# Altium schematic symbol library YL-LPC4350-CORE-V1.0 _Library.SchLib: 156 symbols (part 1 of 10)
Pins are listed as number, name and electrical type; pins without a type are passive.

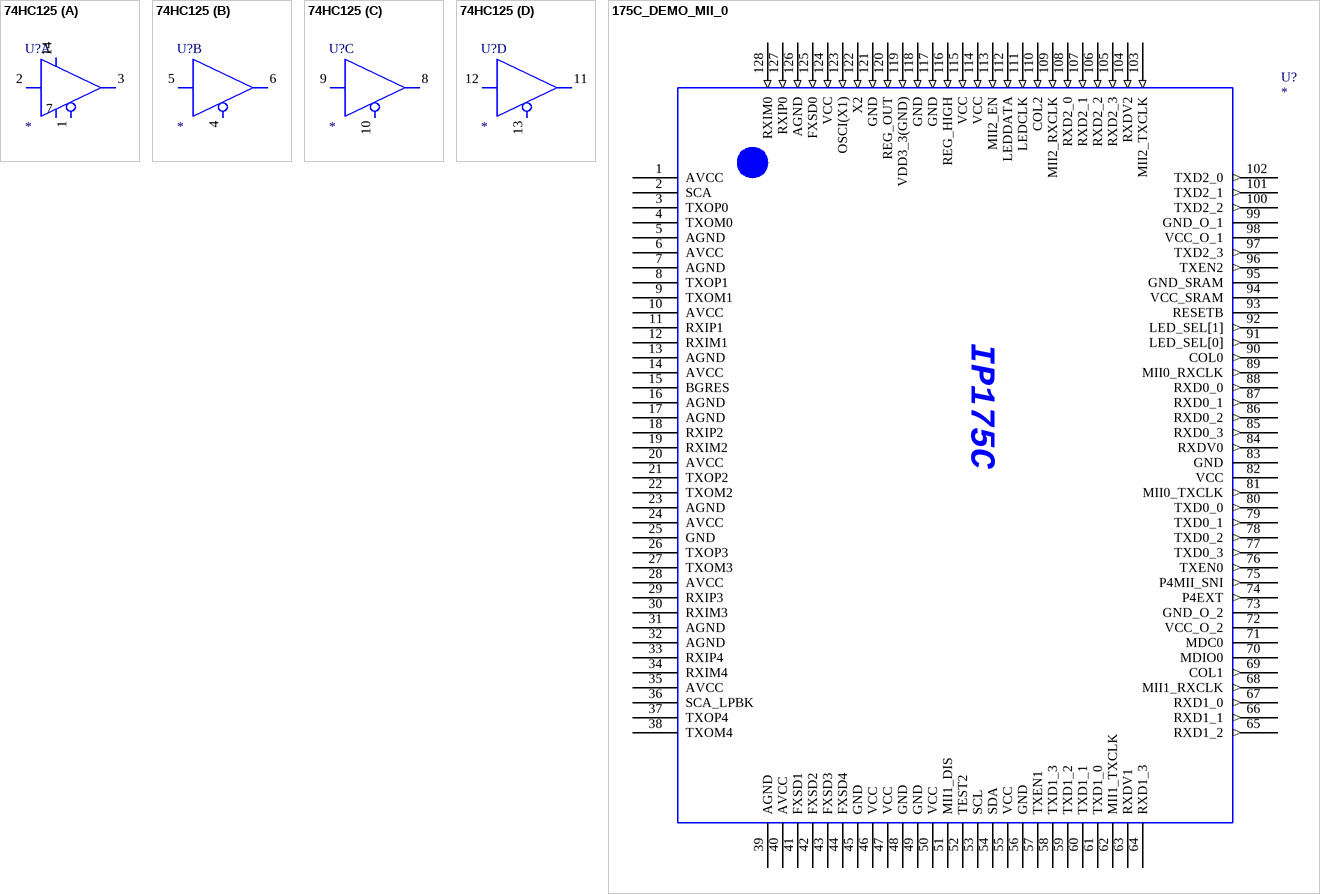
[diagram p0: symbols 74HC125 to 175C_DEMO_MII_0]

## 74HC125
designator U?
Altium-Right: 60; Altium-Bottom: 40; Altium-Right1: 60; Altium-Bottom1: 40; Altium-Right2: 60; Altium-Bottom2: 40; Altium-Right3: 60; Altium-Bottom3: 40
part A pins: 1 OE (in), 2 A (in), 3 Y (hiz), 7 GND, 14 VCC
part B pins: 4 OE (in), 5 A (in), 6 Y (hiz)
part C pins: 8 Y (hiz), 9 A (in), 10 OE (in)
part D pins: 11 Y (hiz), 12 A (in), 13 OE (in)

## 175C_DEMO_MII_0
designator U?
Altium-Right: 370; Altium-Bottom: 490
pins: 1 AVCC, 2 SCA, 3 TXOP0, 4 TXOM0, 5 AGND, 6 AVCC, 7 AGND, 8 TXOP1, 9 TXOM1, 10 AVCC, 11 RXIP1, 12 RXIM1, 13 AGND, 14 AVCC, 15 BGRES, 16 AGND, 17 AGND, 18 RXIP2, 19 RXIM2, 20 AVCC, 21 TXOP2, 22 TXOM2, 23 AGND, 24 AVCC, 25 GND, 26 TXOP3, 27 TXOM3, 28 AVCC, 29 RXIP3, 30 RXIM3, 31 AGND, 32 AGND, 33 RXIP4, 34 RXIM4, 35 AVCC, 36 SCA_LPBK, 37 TXOP4, 38 TXOM4, 39 AGND, 40 AVCC, 41 FXSD1, 42 FXSD2, 43 FXSD3, 44 FXSD4, 45 GND, 46 VCC, 47 VCC, 48 GND, 49 GND, 50 VCC, 51 MII1_DIS, 52 TEST2, 53 SCL, 54 SDA, 55 VCC, 56 GND, 57 TXEN1, 58 TXD1_3, 59 TXD1_2, 60 TXD1_1, 61 TXD1_0, 62 MII1_TXCLK, 63 RXDV1, 64 RXD1_3, 65 RXD1_2 (out), 66 RXD1_1 (out), 67 RXD1_0 (out), 68 MII1_RXCLK (out), 69 COL1 (out), 70 MDIO0, 71 MDC0, 72 VCC_O_2 (power), 73 GND_O_2, 74 P4EXT (out), 75 P4MII_SNI (out), 76 TXEN0 (out), 77 TXD0_3 (out), 78 TXD0_2 (out), 79 TXD0_1 (out), 80 TXD0_0 (out), 81 MII0_TXCLK (out), 82 VCC, 83 GND (power), 84 RXDV0 (out), 85 RXD0_3 (out), 86 RXD0_2 (out), 87 RXD0_1 (out), 88 RXD0_0 (out), 89 MII0_RXCLK (out), 90 COL0 (out), 91 LED_SEL[0] (out), 92 LED_SEL[1] (out), 93 RESETB, 94 VCC_SRAM, 95 GND_SRAM, 96 TXEN2 (out), 97 TXD2_3 (out), 98 VCC_O_1 (power), 99 GND_O_1, 100 TXD2_2 (out), 101 TXD2_1 (out), 102 TXD2_0 (out), 103 MII2_TXCLK (in), 104 RXDV2 (in), 105 RXD2_3 (in), 106 RXD2_2 (in), 107 RXD2_1 (in), 108 RXD2_0 (in), 109 MII2_RXCLK (in), 110 COL2 (in), 111 LEDCLK (in), 112 LEDDATA (in), 113 MII2_EN (in), 114 VCC (in), 115 VCC (in), 116 REG_HIGH (in), 117 GND (in), 118 GND (in), 119 VDD3_3(GND) (in), 120 REG_OUT (in), 121 GND (in), 122 X2 (in), 123 OSCI(X1) (in), 124 VCC (in), 125 FXSD0 (in), 126 AGND (in), 127 RXIP0 (in), 128 RXIM0 (in)
text: IP175C

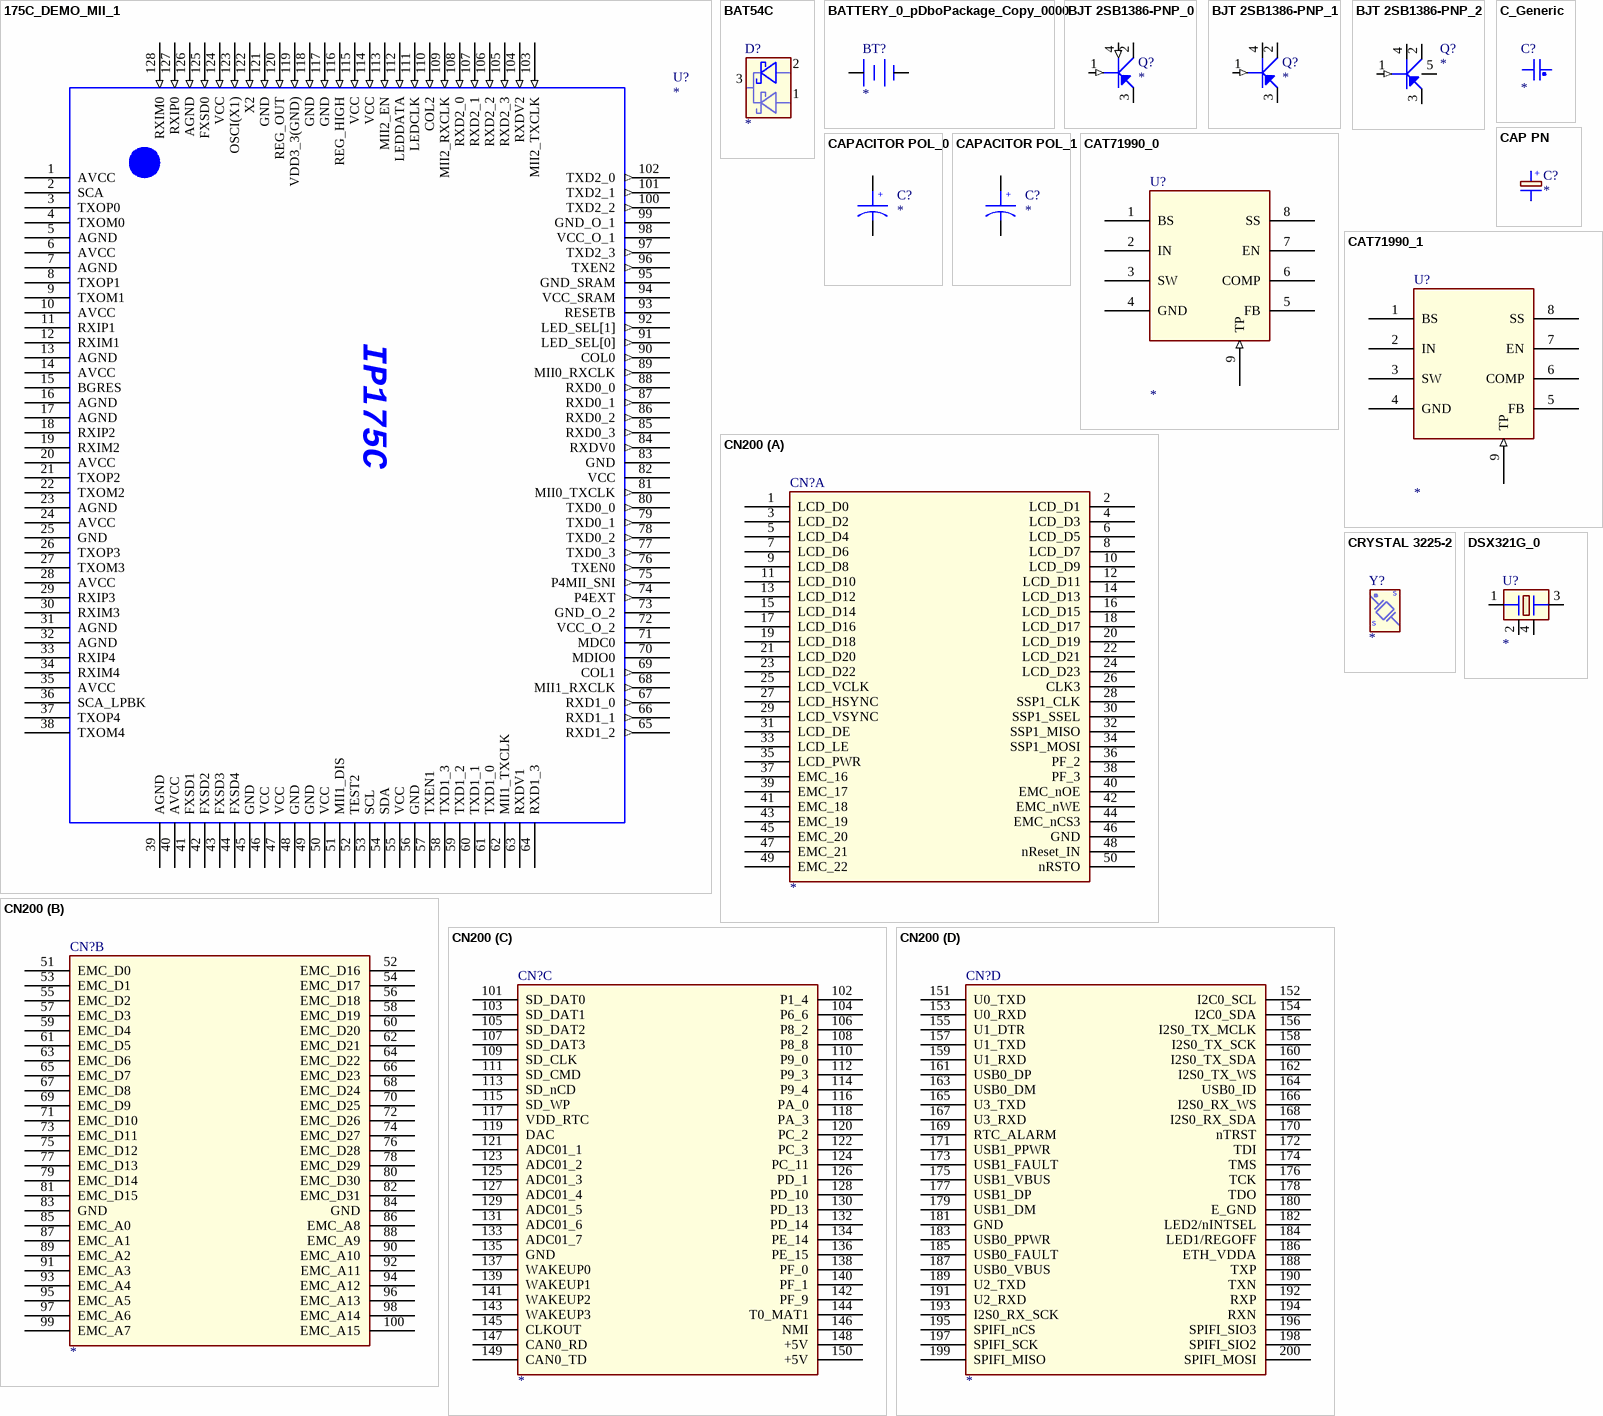
[diagram p1: symbols 175C_DEMO_MII_1 to DSX321G_0]

## 175C_DEMO_MII_1
designator U?
Altium-Right: 370; Altium-Bottom: 490
pins: 1 AVCC, 2 SCA, 3 TXOP0, 4 TXOM0, 5 AGND, 6 AVCC, 7 AGND, 8 TXOP1, 9 TXOM1, 10 AVCC, 11 RXIP1, 12 RXIM1, 13 AGND, 14 AVCC, 15 BGRES, 16 AGND, 17 AGND, 18 RXIP2, 19 RXIM2, 20 AVCC, 21 TXOP2, 22 TXOM2, 23 AGND, 24 AVCC, 25 GND, 26 TXOP3, 27 TXOM3, 28 AVCC, 29 RXIP3, 30 RXIM3, 31 AGND, 32 AGND, 33 RXIP4, 34 RXIM4, 35 AVCC, 36 SCA_LPBK, 37 TXOP4, 38 TXOM4, 39 AGND, 40 AVCC, 41 FXSD1, 42 FXSD2, 43 FXSD3, 44 FXSD4, 45 GND, 46 VCC, 47 VCC, 48 GND, 49 GND, 50 VCC, 51 MII1_DIS, 52 TEST2, 53 SCL, 54 SDA, 55 VCC, 56 GND, 57 TXEN1, 58 TXD1_3, 59 TXD1_2, 60 TXD1_1, 61 TXD1_0, 62 MII1_TXCLK, 63 RXDV1, 64 RXD1_3, 65 RXD1_2 (out), 66 RXD1_1 (out), 67 RXD1_0 (out), 68 MII1_RXCLK (out), 69 COL1 (out), 70 MDIO0, 71 MDC0, 72 VCC_O_2 (power), 73 GND_O_2, 74 P4EXT (out), 75 P4MII_SNI (out), 76 TXEN0 (out), 77 TXD0_3 (out), 78 TXD0_2 (out), 79 TXD0_1 (out), 80 TXD0_0 (out), 81 MII0_TXCLK (out), 82 VCC, 83 GND (power), 84 RXDV0 (out), 85 RXD0_3 (out), 86 RXD0_2 (out), 87 RXD0_1 (out), 88 RXD0_0 (out), 89 MII0_RXCLK (out), 90 COL0 (out), 91 LED_SEL[0] (out), 92 LED_SEL[1] (out), 93 RESETB, 94 VCC_SRAM, 95 GND_SRAM, 96 TXEN2 (out), 97 TXD2_3 (out), 98 VCC_O_1 (power), 99 GND_O_1, 100 TXD2_2 (out), 101 TXD2_1 (out), 102 TXD2_0 (out), 103 MII2_TXCLK (in), 104 RXDV2 (in), 105 RXD2_3 (in), 106 RXD2_2 (in), 107 RXD2_1 (in), 108 RXD2_0 (in), 109 MII2_RXCLK (in), 110 COL2 (in), 111 LEDCLK (in), 112 LEDDATA (in), 113 MII2_EN (in), 114 VCC (in), 115 VCC (in), 116 REG_HIGH (in), 117 GND (in), 118 GND (in), 119 VDD3_3(GND) (in), 120 REG_OUT (in), 121 GND (in), 122 X2 (in), 123 OSCI(X1) (in), 124 VCC (in), 125 FXSD0 (in), 126 AGND (in), 127 RXIP0 (in), 128 RXIM0 (in)
text: IP175C

## BAT54C
designator D?
Altium-Right: 30; Altium-Bottom: 40
pins: 1 A, 2 K, 3 COM

## BATTERY_0_pDboPackage_Copy_0000
designator BT?
Altium-Right: 20; Altium-Bottom: 20
pins: 1 +, 2 -

## BJT 2SB1386-PNP_0
designator Q?
Altium-Right: 20; Altium-Bottom: 20
footprint SOT-89
pins: 1 BASE (in), 2 COLLECTOR (io), 3 EMITTER (io), 4 COLLECTOR (in)

## BJT 2SB1386-PNP_1
designator Q?
Altium-Right: 20; Altium-Bottom: 20
footprint SOT-89
pins: 1 BASE (in), 2 COLLECTOR (io), 3 EMITTER (io), 4 COLLECTOR (io)

## BJT 2SB1386-PNP_2
designator Q?
Altium-Right: 20; Altium-Bottom: 20
footprint SOT-89
pins: 1 BASE (in), 2 COLLECTOR (io), 3 EMITTER (io), 4 COLLECTOR (io), 5 COLLECTOR (io)

## C_Generic
designator C?
Altium-Right: 20; Altium-Bottom: 20
footprint CAP0805
pins: 1, 2

## CAP PN
designator C?
SDTSourceLibName: C:\WINDOWS\TEMP\SNDS.LIB; Altium-Right: 20; Altium-Bottom: 20
pins: 1, 2
text: +

## CAPACITOR POL_0
designator C?
Altium-Right: 20; Altium-Bottom: 20
footprint CAP-1106-DIP
pins: 1, 2
text: +

## CAPACITOR POL_1
designator C?
Altium-Right: 20; Altium-Bottom: 20
footprint CAP-1106-DIP
pins: 1, 2
text: +

## CAT71990_0
designator U?
Altium-Right: 80; Altium-Bottom: 100
footprint SOP8
pins: 1 BS, 2 IN, 3 SW, 4 GND, 5 FB, 6 COMP, 7 EN, 8 SS, 9 TP (in)

## CAT71990_1
designator U?
Altium-Right: 80; Altium-Bottom: 100
footprint SOP8
pins: 1 BS, 2 IN, 3 SW, 4 GND, 5 FB, 6 COMP, 7 EN, 8 SS, 9 TP (in)

## CN200
designator CN?
Altium-Right: 200; Altium-Bottom: 260; Altium-Right1: 200; Altium-Bottom1: 260; Altium-Right2: 200; Altium-Bottom2: 260; Altium-Right3: 200; Altium-Bottom3: 260
part A pins: 1 LCD_D0, 2 LCD_D1, 3 LCD_D2, 4 LCD_D3, 5 LCD_D4, 6 LCD_D5, 7 LCD_D6, 8 LCD_D7, 9 LCD_D8, 10 LCD_D9, 11 LCD_D10, 12 LCD_D11, 13 LCD_D12, 14 LCD_D13, 15 LCD_D14, 16 LCD_D15, 17 LCD_D16, 18 LCD_D17, 19 LCD_D18, 20 LCD_D19, 21 LCD_D20, 22 LCD_D21, 23 LCD_D22, 24 LCD_D23, 25 LCD_VCLK, 26 CLK3, 27 LCD_HSYNC, 28 SSP1_CLK, 29 LCD_VSYNC, 30 SSP1_SSEL, 31 LCD_DE, 32 SSP1_MISO, 33 LCD_LE, 34 SSP1_MOSI, 35 LCD_PWR, 36 PF_2, 37 EMC_16, 38 PF_3, 39 EMC_17, 40 EMC_nOE, 41 EMC_18, 42 EMC_nWE, 43 EMC_19, 44 EMC_nCS3, 45 EMC_20, 46 GND, 47 EMC_21, 48 nReset_IN, 49 EMC_22, 50 nRSTO
part B pins: 51 EMC_D0, 52 EMC_D16, 53 EMC_D1, 54 EMC_D17, 55 EMC_D2, 56 EMC_D18, 57 EMC_D3, 58 EMC_D19, 59 EMC_D4, 60 EMC_D20, 61 EMC_D5, 62 EMC_D21, 63 EMC_D6, 64 EMC_D22, 65 EMC_D7, 66 EMC_D23, 67 EMC_D8, 68 EMC_D24, 69 EMC_D9, 70 EMC_D25, 71 EMC_D10, 72 EMC_D26, 73 EMC_D11, 74 EMC_D27, 75 EMC_D12, 76 EMC_D28, 77 EMC_D13, 78 EMC_D29, 79 EMC_D14, 80 EMC_D30, 81 EMC_D15, 82 EMC_D31, 83 GND, 84 GND, 85 EMC_A0, 86 EMC_A8, 87 EMC_A1, 88 EMC_A9, 89 EMC_A2, 90 EMC_A10, 91 EMC_A3, 92 EMC_A11, 93 EMC_A4, 94 EMC_A12, 95 EMC_A5, 96 EMC_A13, 97 EMC_A6, 98 EMC_A14, 99 EMC_A7, 100 EMC_A15
part C pins: 101 SD_DAT0, 102 P1_4, 103 SD_DAT1, 104 P6_6, 105 SD_DAT2, 106 P8_2, 107 SD_DAT3, 108 P8_8, 109 SD_CLK, 110 P9_0, 111 SD_CMD, 112 P9_3, 113 SD_nCD, 114 P9_4, 115 SD_WP, 116 PA_0, 117 VDD_RTC, 118 PA_3, 119 DAC, 120 PC_2, 121 ADC01_1, 122 PC_3, 123 ADC01_2, 124 PC_11, 125 ADC01_3, 126 PD_1, 127 ADC01_4, 128 PD_10, 129 ADC01_5, 130 PD_13, 131 ADC01_6, 132 PD_14, 133 ADC01_7, 134 PE_14, 135 GND, 136 PE_15, 137 WAKEUP0, 138 PF_0, 139 WAKEUP1, 140 PF_1, 141 WAKEUP2, 142 PF_9, 143 WAKEUP3, 144 T0_MAT1, 145 CLKOUT, 146 NMI, 147 CAN0_RD, 148 +5V, 149 CAN0_TD, 150 +5V
part D pins: 151 U0_TXD, 152 I2C0_SCL, 153 U0_RXD, 154 I2C0_SDA, 155 U1_DTR, 156 I2S0_TX_MCLK, 157 U1_TXD, 158 I2S0_TX_SCK, 159 U1_RXD, 160 I2S0_TX_SDA, 161 USB0_DP, 162 I2S0_TX_WS, 163 USB0_DM, 164 USB0_ID, 165 U3_TXD, 166 I2S0_RX_WS, 167 U3_RXD, 168 I2S0_RX_SDA, 169 RTC_ALARM, 170 nTRST, 171 USB1_PPWR, 172 TDI, 173 USB1_FAULT, 174 TMS, 175 USB1_VBUS, 176 TCK, 177 USB1_DP, 178 TDO, 179 USB1_DM, 180 E_GND, 181 GND, 182 LED2/nINTSEL, 183 USB0_PPWR, 184 LED1/REGOFF, 185 USB0_FAULT, 186 ETH_VDDA, 187 USB0_VBUS, 188 TXP, 189 U2_TXD, 190 TXN, 191 U2_RXD, 192 RXP, 193 I2S0_RX_SCK, 194 RXN, 195 SPIFI_nCS, 196 SPIFI_SIO3, 197 SPIFI_SCK, 198 SPIFI_SIO2, 199 SPIFI_MISO, 200 SPIFI_MOSI

## CRYSTAL 3225-2
designator Y?
Altium-Right: 20; Altium-Bottom: 40
footprint Y3225
pins: 1, 2, 3, 4
text: S

## DSX321G_0
designator U?
Altium-Right: 30; Altium-Bottom: 20
pins: 1, 2 NC, 3, 4 NC

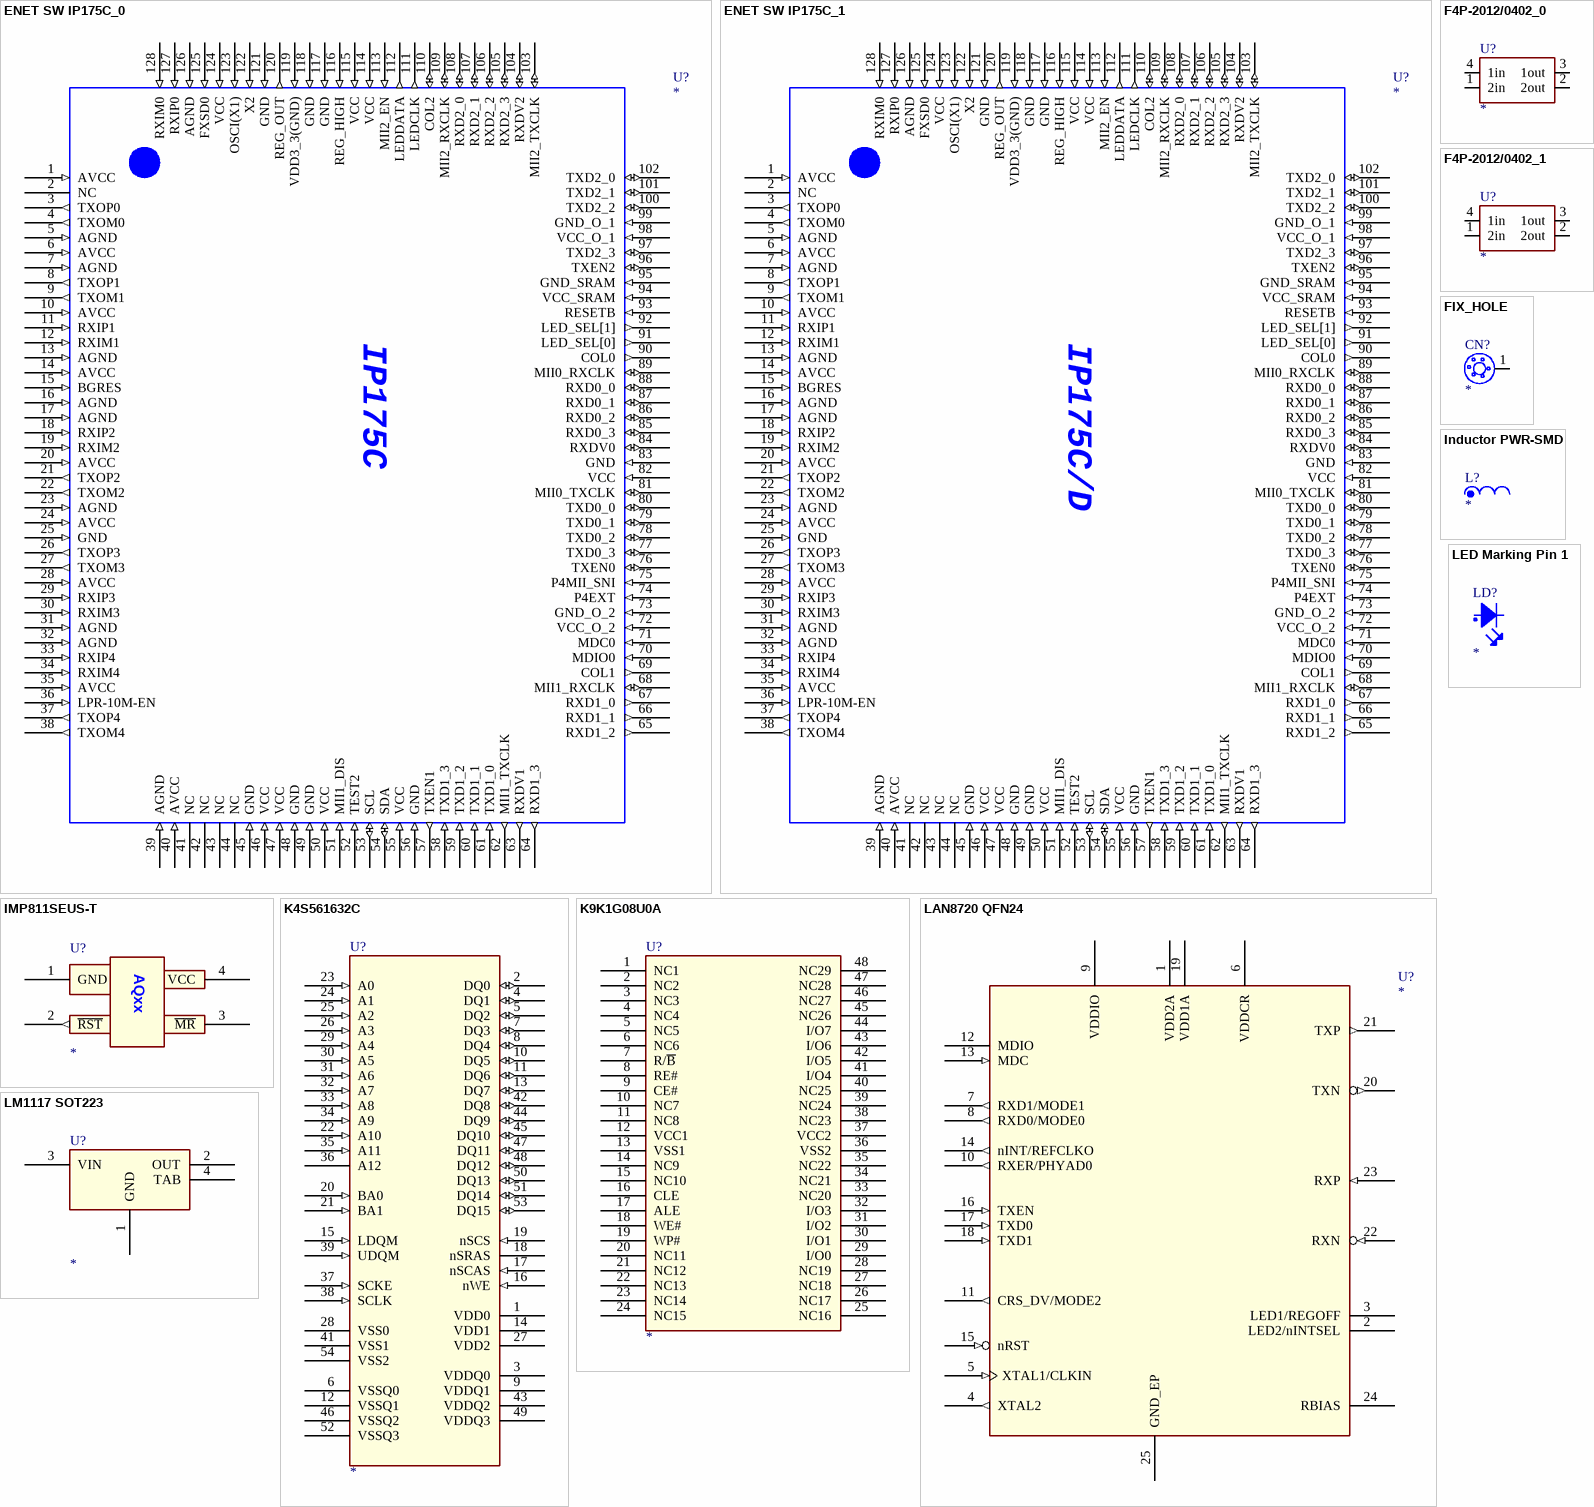
[diagram p2: symbols ENET SW IP175C_0 to LM1117 SOT223]

## ENET SW IP175C_0
designator U?
Altium-Right: 370; Altium-Bottom: 490
footprint P128QFP
pins: 1 AVCC (in), 2 NC, 3 TXOP0 (out), 4 TXOM0 (out), 5 AGND (in), 6 AVCC (in), 7 AGND (in), 8 TXOP1 (out), 9 TXOM1 (out), 10 AVCC (in), 11 RXIP1 (in), 12 RXIM1 (in), 13 AGND (in), 14 AVCC (in), 15 BGRES (in), 16 AGND (in), 17 AGND (in), 18 RXIP2 (in), 19 RXIM2 (in), 20 AVCC (in), 21 TXOP2 (out), 22 TXOM2 (out), 23 AGND (in), 24 AVCC (in), 25 GND (in), 26 TXOP3 (out), 27 TXOM3 (out), 28 AVCC (in), 29 RXIP3 (in), 30 RXIM3 (in), 31 AGND (in), 32 AGND (in), 33 RXIP4 (in), 34 RXIM4 (in), 35 AVCC (in), 36 LPR-10M-EN (in), 37 TXOP4 (out), 38 TXOM4 (out), 39 AGND (in), 40 AVCC (in), 41 NC, 42 NC, 43 NC, 44 NC, 45 GND (in), 46 VCC (in), 47 VCC (in), 48 GND (in), 49 GND (in), 50 VCC (in), 51 MII1_DIS (in), 52 TEST2 (in), 53 SCL (io), 54 SDA (io), 55 VCC (in), 56 GND (in), 57 TXEN1 (out), 58 TXD1_3 (in), 59 TXD1_2 (in), 60 TXD1_1 (in), 61 TXD1_0 (in), 62 MII1_TXCLK (out), 63 RXDV1 (out), 64 RXD1_3 (out), 65 RXD1_2 (out), 66 RXD1_1 (out), 67 RXD1_0 (out), 68 MII1_RXCLK (io), 69 COL1 (out), 70 MDIO0 (in), 71 MDC0 (in), 72 VCC_O_2 (in), 73 GND_O_2 (in), 74 P4EXT (in), 75 P4MII_SNI (in), 76 TXEN0 (io), 77 TXD0_3 (io), 78 TXD0_2 (io), 79 TXD0_1 (io), 80 TXD0_0 (io), 81 MII0_TXCLK (io), 82 VCC (in), 83 GND (in), 84 RXDV0 (io), 85 RXD0_3 (io), 86 RXD0_2 (io), 87 RXD0_1 (io), 88 RXD0_0 (io), 89 MII0_RXCLK (io), 90 COL0 (out), 91 LED_SEL[0] (out), 92 LED_SEL[1] (out), 93 RESETB (in), 94 VCC_SRAM (in), 95 GND_SRAM (in), 96 TXEN2 (io), 97 TXD2_3 (io), 98 VCC_O_1 (in), 99 GND_O_1 (in), 100 TXD2_2 (io), 101 TXD2_1 (io), 102 TXD2_0 (io), 103 MII2_TXCLK (io), 104 RXDV2 (io), 105 RXD2_3 (io), 106 RXD2_2 (io), 107 RXD2_1 (io), 108 RXD2_0 (io), 109 MII2_RXCLK (io), 110 COL2 (io), 111 LEDCLK (out), 112 LEDDATA (out), 113 MII2_EN (in), 114 VCC (in), 115 VCC (in), 116 REG_HIGH (in), 117 GND (in), 118 GND (in), 119 VDD3_3(GND) (in), 120 REG_OUT (out), 121 GND (in), 122 X2 (in), 123 OSCI(X1) (in), 124 VCC (in), 125 FXSD0 (in), 126 AGND (in), 127 RXIP0 (in), 128 RXIM0 (in)
text: IP175C

## ENET SW IP175C_1
designator U?
Altium-Right: 370; Altium-Bottom: 490
footprint P128QFP
pins: 1 AVCC (in), 2 NC, 3 TXOP0 (out), 4 TXOM0 (out), 5 AGND (in), 6 AVCC (in), 7 AGND (in), 8 TXOP1 (out), 9 TXOM1 (out), 10 AVCC (in), 11 RXIP1 (in), 12 RXIM1 (in), 13 AGND (in), 14 AVCC (in), 15 BGRES (in), 16 AGND (in), 17 AGND (in), 18 RXIP2 (in), 19 RXIM2 (in), 20 AVCC (in), 21 TXOP2 (out), 22 TXOM2 (out), 23 AGND (in), 24 AVCC (in), 25 GND (in), 26 TXOP3 (out), 27 TXOM3 (out), 28 AVCC (in), 29 RXIP3 (in), 30 RXIM3 (in), 31 AGND (in), 32 AGND (in), 33 RXIP4 (in), 34 RXIM4 (in), 35 AVCC (in), 36 LPR-10M-EN (in), 37 TXOP4 (out), 38 TXOM4 (out), 39 AGND (in), 40 AVCC (in), 41 NC, 42 NC, 43 NC, 44 NC, 45 GND (in), 46 VCC (in), 47 VCC (in), 48 GND (in), 49 GND (in), 50 VCC (in), 51 MII1_DIS (in), 52 TEST2 (in), 53 SCL (io), 54 SDA (io), 55 VCC (in), 56 GND (in), 57 TXEN1 (out), 58 TXD1_3 (in), 59 TXD1_2 (in), 60 TXD1_1 (in), 61 TXD1_0 (in), 62 MII1_TXCLK (out), 63 RXDV1 (out), 64 RXD1_3 (out), 65 RXD1_2 (out), 66 RXD1_1 (out), 67 RXD1_0 (out), 68 MII1_RXCLK (io), 69 COL1 (out), 70 MDIO0 (in), 71 MDC0 (in), 72 VCC_O_2 (in), 73 GND_O_2 (in), 74 P4EXT (in), 75 P4MII_SNI (in), 76 TXEN0 (io), 77 TXD0_3 (io), 78 TXD0_2 (io), 79 TXD0_1 (io), 80 TXD0_0 (io), 81 MII0_TXCLK (io), 82 VCC (in), 83 GND (in), 84 RXDV0 (io), 85 RXD0_3 (io), 86 RXD0_2 (io), 87 RXD0_1 (io), 88 RXD0_0 (io), 89 MII0_RXCLK (io), 90 COL0 (out), 91 LED_SEL[0] (out), 92 LED_SEL[1] (out), 93 RESETB (in), 94 VCC_SRAM (in), 95 GND_SRAM (in), 96 TXEN2 (io), 97 TXD2_3 (io), 98 VCC_O_1 (in), 99 GND_O_1 (in), 100 TXD2_2 (io), 101 TXD2_1 (io), 102 TXD2_0 (io), 103 MII2_TXCLK (io), 104 RXDV2 (io), 105 RXD2_3 (io), 106 RXD2_2 (io), 107 RXD2_1 (io), 108 RXD2_0 (io), 109 MII2_RXCLK (io), 110 COL2 (io), 111 LEDCLK (out), 112 LEDDATA (out), 113 MII2_EN (in), 114 VCC (in), 115 VCC (in), 116 REG_HIGH (in), 117 GND (in), 118 GND (in), 119 VDD3_3(GND) (in), 120 REG_OUT (out), 121 GND (in), 122 X2 (in), 123 OSCI(X1) (in), 124 VCC (in), 125 FXSD0 (in), 126 AGND (in), 127 RXIP0 (in), 128 RXIM0 (in)
text: IP175C/D

## F4P-2012/0402_0
designator U?
Altium-Right: 50; Altium-Bottom: 30
footprint F4P-2012/0402
pins: 1 2in (io), 2 2out (io), 3 1out (io), 4 1in (io)

## F4P-2012/0402_1
designator U?
Altium-Right: 50; Altium-Bottom: 30
footprint F4P-2012/0402
pins: 1 2in (io), 2 2out (io), 3 1out (io), 4 1in (io)

## FIX_HOLE
designator CN?
Altium-Right: 20; Altium-Bottom: 20
pins: 1

## IMP811SEUS-T
designator U?
Altium-Right: 90; Altium-Bottom: 70
pins: 1 GND, 2 ~{RST} (out), 3 ~{MR}, 4 VCC
text: AQxx

## Inductor PWR-SMD
designator L?
Altium-Right: 30; Altium-Bottom: 20
pins: 1, 2

## K4S561632C
designator U?
Altium-Right: 100; Altium-Bottom: 340
pins: 1 VDD0 (power), 2 DQ0 (io), 3 VDDQ0 (power), 4 DQ1 (io), 5 DQ2 (io), 6 VSSQ0 (power), 7 DQ3 (io), 8 DQ4 (io), 9 VDDQ1 (power), 10 DQ5 (io), 11 DQ6 (io), 12 VSSQ1 (power), 13 DQ7 (io), 14 VDD1 (power), 15 LDQM (in), 16 nWE (in), 17 nSCAS (in), 18 nSRAS, 19 nSCS (in), 20 BA0 (in), 21 BA1 (in), 22 A10 (in), 23 A0 (in), 24 A1 (in), 25 A2 (in), 26 A3 (in), 27 VDD2 (power), 28 VSS0 (power), 29 A4 (in), 30 A5 (in), 31 A6 (in), 32 A7 (in), 33 A8 (in), 34 A9 (in), 35 A11 (in), 36 A12, 37 SCKE (in), 38 SCLK (in), 39 UDQM (in), 41 VSS1 (power), 42 DQ8 (io), 43 VDDQ2 (power), 44 DQ9 (io), 45 DQ10 (io), 46 VSSQ2 (power), 47 DQ11 (io), 48 DQ12 (io), 49 VDDQ3 (power), 50 DQ13 (io), 51 DQ14 (io), 52 VSSQ3 (power), 53 DQ15 (io), 54 VSS2 (power)

## K9K1G08U0A
designator U?
Altium-Right: 130; Altium-Bottom: 250
footprint TSOP1
pins: 1 NC1, 2 NC2, 3 NC3, 4 NC4, 5 NC5, 6 NC6, 7 R/~{B}, 8 RE#, 9 CE#, 10 NC7, 11 NC8, 12 VCC1, 13 VSS1, 14 NC9, 15 NC10, 16 CLE, 17 ALE, 18 WE#, 19 WP#, 20 NC11, 21 NC12, 22 NC13, 23 NC14, 24 NC15, 25 NC16, 26 NC17, 27 NC18, 28 NC19, 29 I/O0, 30 I/O1, 31 I/O2, 32 I/O3, 33 NC20, 34 NC21, 35 NC22, 36 VSS2, 37 VCC2, 38 NC23, 39 NC24, 40 NC25, 41 I/O4, 42 I/O5, 43 I/O6, 44 I/O7, 45 NC26, 46 NC27, 47 NC28, 48 NC29

## LAN8720 QFN24
designator U?
PART#: SMSC LAN8720A-CP; Altium-Right: 240; Altium-Bottom: 300
footprint QFN24_4X4MM_EP2P5MM
pins: 1 VDD2A, 2 LED2/nINTSEL, 3 LED1/REGOFF, 4 XTAL2 (out), 5 XTAL1/CLKIN (in), 6 VDDCR, 7 RXD1/MODE1 (out), 8 RXD0/MODE0 (out), 9 VDDIO, 10 RXER/PHYAD0 (out), 11 CRS_DV/MODE2 (out), 12 MDIO, 13 MDC (in), 14 nINT/REFCLKO (out), 15 nRST (in), 16 TXEN (in), 17 TXD0 (in), 18 TXD1 (in), 19 VDD1A, 20 TXN (out), 21 TXP (out), 22 RXN (in), 23 RXP (in), 24 RBIAS, 25 GND_EP

## LED Marking Pin 1
designator LD?
Altium-Right: 20; Altium-Bottom: 30
pins: 1, 2

## LM1117 SOT223
designator U?
Altium-Right: 80; Altium-Bottom: 40
footprint XP-SOT223-3
pins: 1 GND, 2 OUT, 3 VIN, 4 TAB

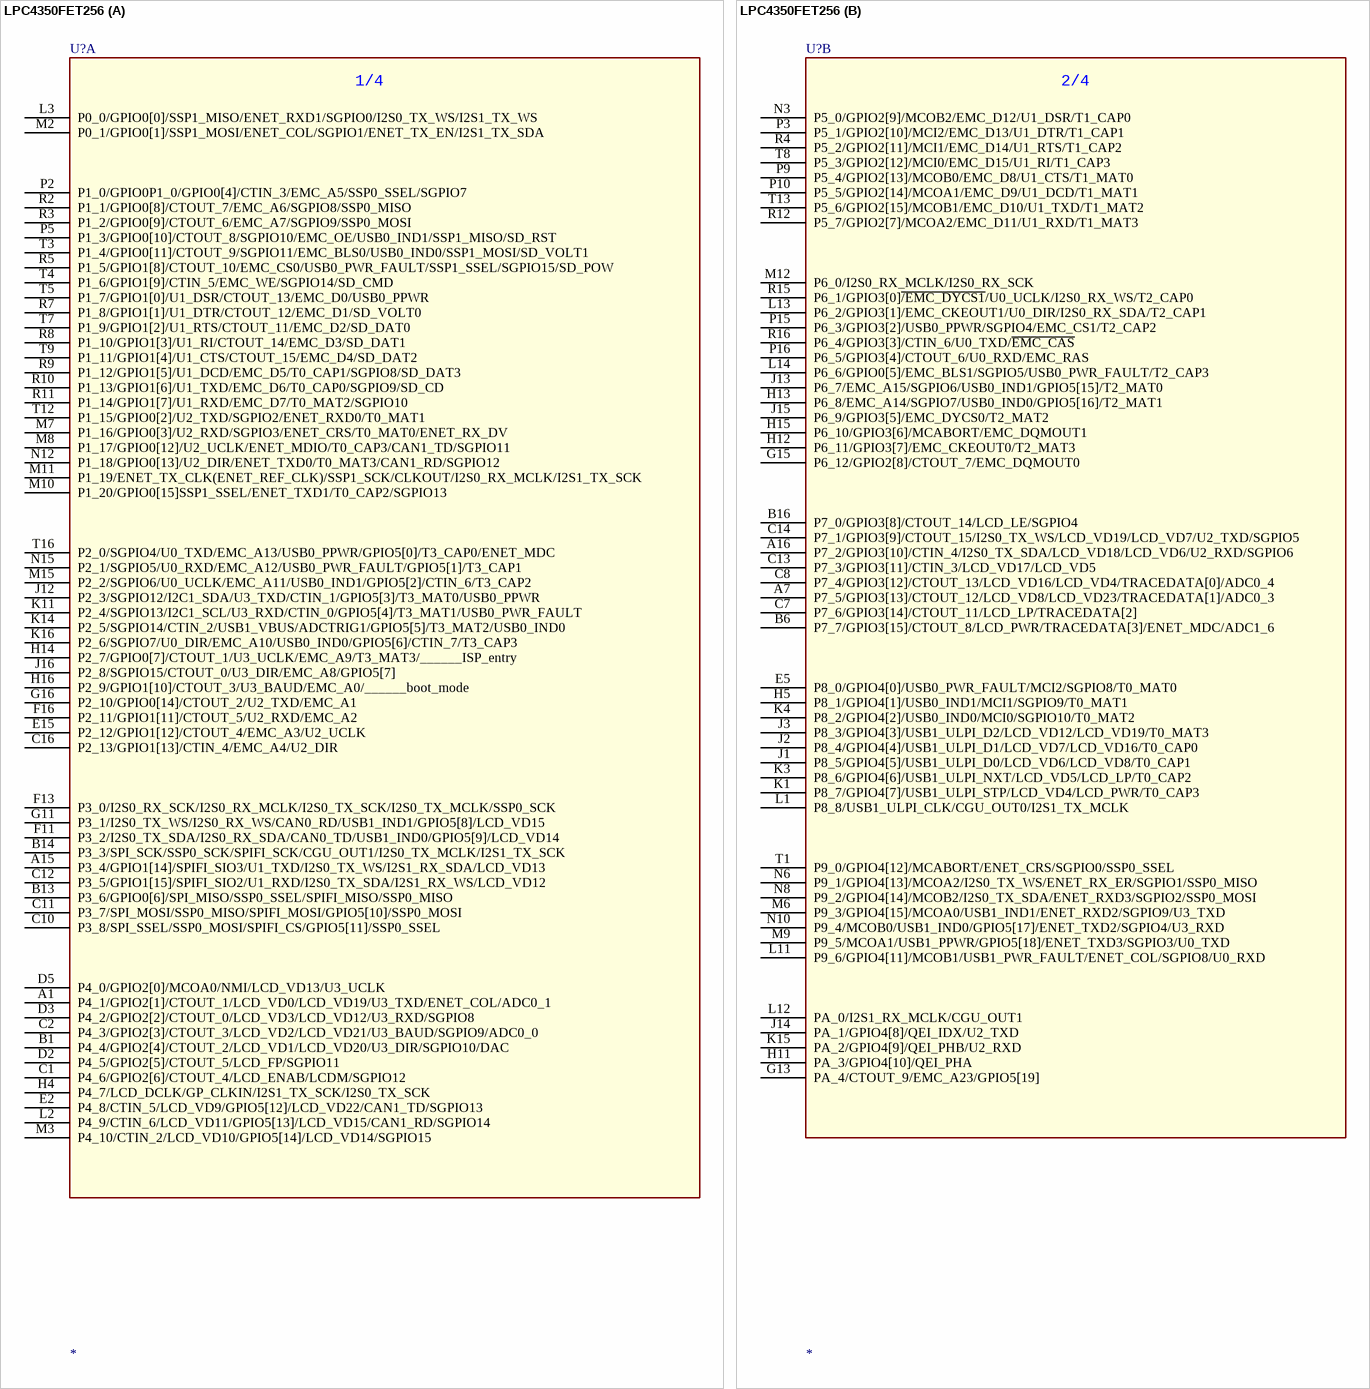
[diagram p3: symbol LPC4350FET256]

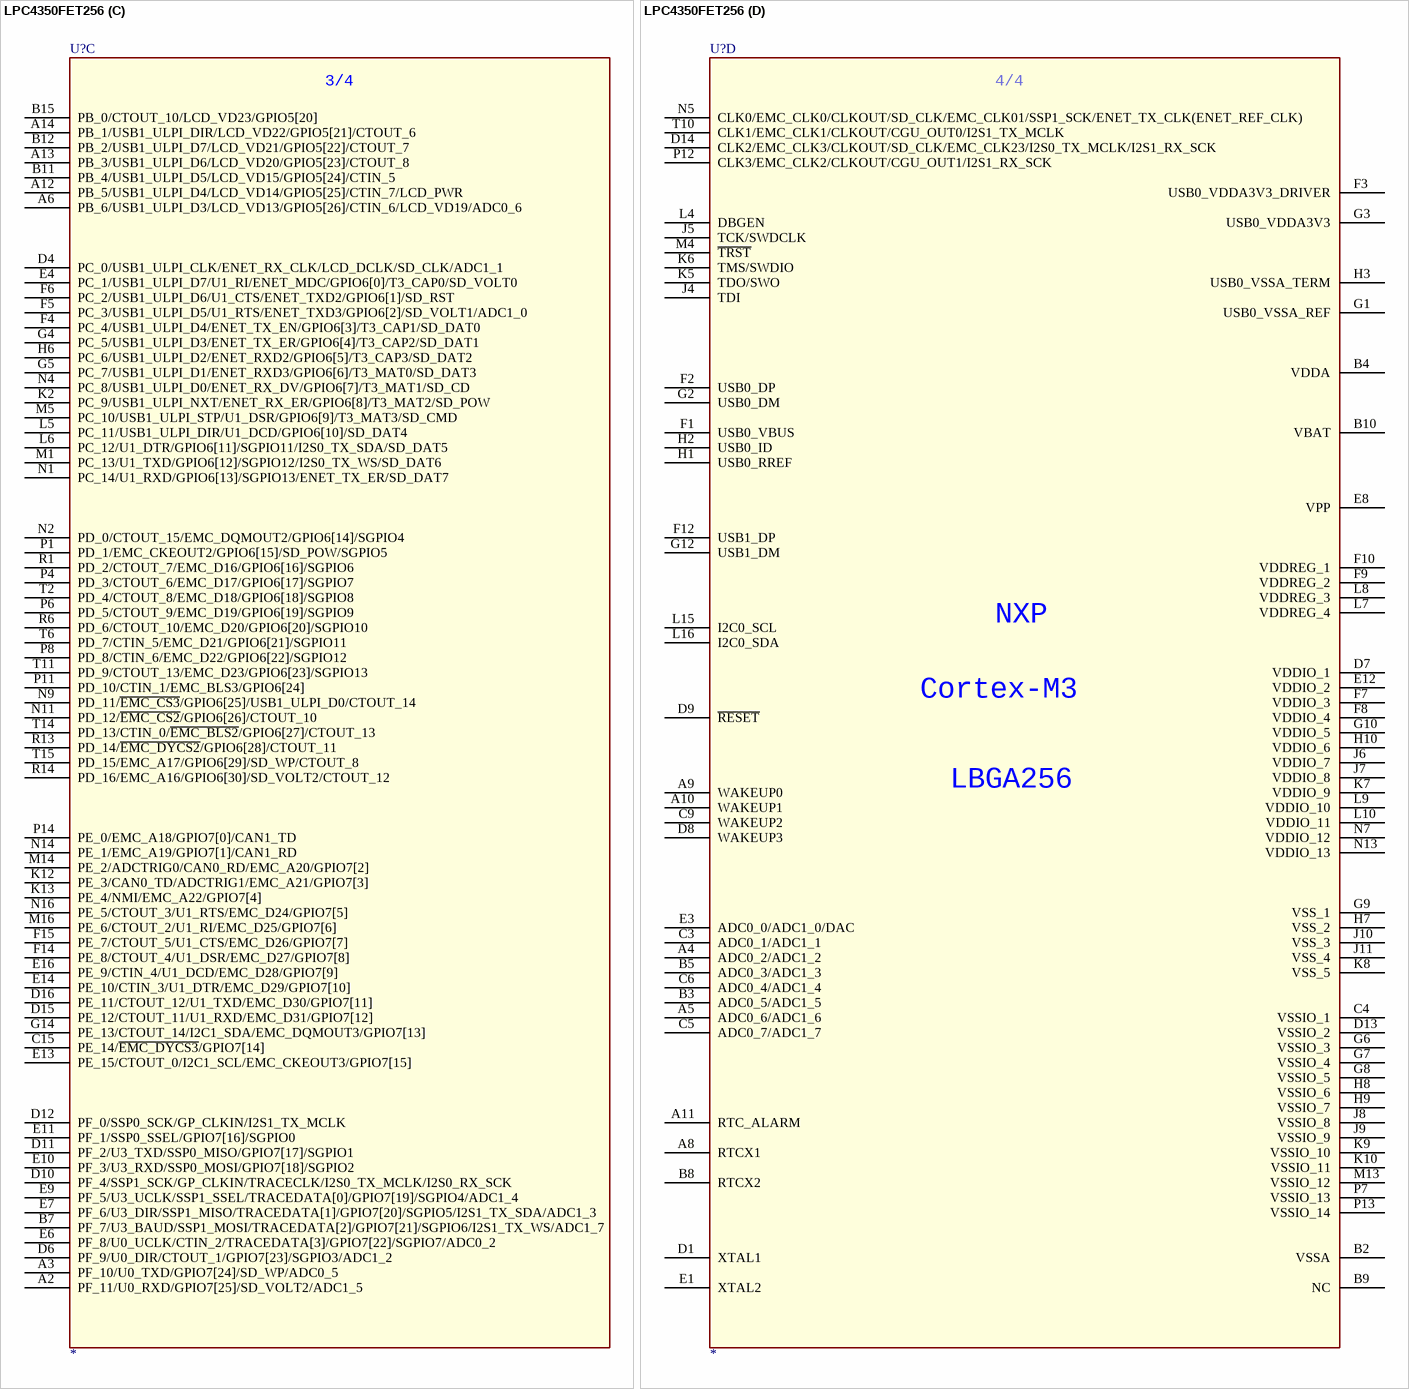
[diagram p4: symbol LPC4350FET256]

## LPC4350FET256
designator U?
Altium-Right: 420; Altium-Bottom: 760; Altium-Right1: 360; Altium-Bottom1: 720; Altium-Bottom2: 860; Altium-Right2: 360; Altium-Right3: 420; Altium-Bottom3: 860
footprint LBGA256
part A pins: A1 P4_1/GPIO2[1]/CTOUT_1/LCD_VD0/LCD_VD19/U3_TXD/ENET_COL/ADC0_1, A15 P3_4/GPIO1[14]/SPIFI_SIO3/U1_TXD/I2S0_TX_WS/I2S1_RX_SDA/LCD_VD13, B1 P4_4/GPIO2[4]/CTOUT_2/LCD_VD1/LCD_VD20/U3_DIR/SGPIO10/DAC, B13 P3_6/GPIO0[6]/SPI_MISO/SSP0_SSEL/SPIFI_MISO/SSP0_MISO, B14 P3_3/SPI_SCK/SSP0_SCK/SPIFI_SCK/CGU_OUT1/I2S0_TX_MCLK/I2S1_TX_SCK, C1 P4_6/GPIO2[6]/CTOUT_4/LCD_ENAB/LCDM/SGPIO12, C2 P4_3/GPIO2[3]/CTOUT_3/LCD_VD2/LCD_VD21/U3_BAUD/SGPIO9/ADC0_0, C10 P3_8/SPI_SSEL/SSP0_MOSI/SPIFI_CS/GPIO5[11]/SSP0_SSEL, C11 P3_7/SPI_MOSI/SSP0_MISO/SPIFI_MOSI/GPIO5[10]/SSP0_MOSI, C12 P3_5/GPIO1[15]/SPIFI_SIO2/U1_RXD/I2S0_TX_SDA/I2S1_RX_WS/LCD_VD12, C16 P2_13/GPIO1[13]/CTIN_4/EMC_A4/U2_DIR, D2 P4_5/GPIO2[5]/CTOUT_5/LCD_FP/SGPIO11, D3 P4_2/GPIO2[2]/CTOUT_0/LCD_VD3/LCD_VD12/U3_RXD/SGPIO8, D5 P4_0/GPIO2[0]/MCOA0/NMI/LCD_VD13/U3_UCLK, E2 P4_8/CTIN_5/LCD_VD9/GPIO5[12]/LCD_VD22/CAN1_TD/SGPIO13, E15 P2_12/GPIO1[12]/CTOUT_4/EMC_A3/U2_UCLK, F11 P3_2/I2S0_TX_SDA/I2S0_RX_SDA/CAN0_TD/USB1_IND0/GPIO5[9]/LCD_VD14, F13 P3_0/I2S0_RX_SCK/I2S0_RX_MCLK/I2S0_TX_SCK/I2S0_TX_MCLK/SSP0_SCK, F16 P2_11/GPIO1[11]/CTOUT_5/U2_RXD/EMC_A2, G11 P3_1/I2S0_TX_WS/I2S0_RX_WS/CAN0_RD/USB1_IND1/GPIO5[8]/LCD_VD15, G16 P2_10/GPIO0[14]/CTOUT_2/U2_TXD/EMC_A1, H4 P4_7/LCD_DCLK/GP_CLKIN/I2S1_TX_SCK/I2S0_TX_SCK, H14 P2_7/GPIO0[7]/CTOUT_1/U3_UCLK/EMC_A9/T3_MAT3/______ISP_entry, H16 P2_9/GPIO1[10]/CTOUT_3/U3_BAUD/EMC_A0/______boot_mode, J12 P2_3/SGPIO12/I2C1_SDA/U3_TXD/CTIN_1/GPIO5[3]/T3_MAT0/USB0_PPWR, J16 P2_8/SGPIO15/CTOUT_0/U3_DIR/EMC_A8/GPIO5[7], K11 P2_4/SGPIO13/I2C1_SCL/U3_RXD/CTIN_0/GPIO5[4]/T3_MAT1/USB0_PWR_FAULT, K14 P2_5/SGPIO14/CTIN_2/USB1_VBUS/ADCTRIG1/GPIO5[5]/T3_MAT2/USB0_IND0, K16 P2_6/SGPIO7/U0_DIR/EMC_A10/USB0_IND0/GPIO5[6]/CTIN_7/T3_CAP3, L2 P4_9/CTIN_6/LCD_VD11/GPIO5[13]/LCD_VD15/CAN1_RD/SGPIO14, L3 P0_0/GPIO0[0]/SSP1_MISO/ENET_RXD1/SGPIO0/I2S0_TX_WS/I2S1_TX_WS, M2 P0_1/GPIO0[1]/SSP1_MOSI/ENET_COL/SGPIO1/ENET_TX_EN/I2S1_TX_SDA, M3 P4_10/CTIN_2/LCD_VD10/GPIO5[14]/LCD_VD14/SGPIO15, M7 P1_16/GPIO0[3]/U2_RXD/SGPIO3/ENET_CRS/T0_MAT0/ENET_RX_DV, M8 P1_17/GPIO0[12]/U2_UCLK/ENET_MDIO/T0_CAP3/CAN1_TD/SGPIO11, M10 P1_20/GPIO0[15]SSP1_SSEL/ENET_TXD1/T0_CAP2/SGPIO13, M11 P1_19/ENET_TX_CLK(ENET_REF_CLK)/SSP1_SCK/CLKOUT/I2S0_RX_MCLK/I2S1_TX_SCK, M15 P2_2/SGPIO6/U0_UCLK/EMC_A11/USB0_IND1/GPIO5[2]/CTIN_6/T3_CAP2, N12 P1_18/GPIO0[13]/U2_DIR/ENET_TXD0/T0_MAT3/CAN1_RD/SGPIO12, N15 P2_1/SGPIO5/U0_RXD/EMC_A12/USB0_PWR_FAULT/GPIO5[1]/T3_CAP1, P2 P1_0/GPIO0P1_0/GPIO0[4]/CTIN_3/EMC_A5/SSP0_SSEL/SGPIO7, P5 P1_3/GPIO0[10]/CTOUT_8/SGPIO10/EMC_OE/USB0_IND1/SSP1_MISO/SD_RST, R2 P1_1/GPIO0[8]/CTOUT_7/EMC_A6/SGPIO8/SSP0_MISO, R3 P1_2/GPIO0[9]/CTOUT_6/EMC_A7/SGPIO9/SSP0_MOSI, R5 P1_5/GPIO1[8]/CTOUT_10/EMC_CS0/USB0_PWR_FAULT/SSP1_SSEL/SGPIO15/SD_POW, R7 P1_8/GPIO1[1]/U1_DTR/CTOUT_12/EMC_D1/SD_VOLT0, R8 P1_10/GPIO1[3]/U1_RI/CTOUT_14/EMC_D3/SD_DAT1, R9 P1_12/GPIO1[5]/U1_DCD/EMC_D5/T0_CAP1/SGPIO8/SD_DAT3, R10 P1_13/GPIO1[6]/U1_TXD/EMC_D6/T0_CAP0/SGPIO9/SD_CD, R11 P1_14/GPIO1[7]/U1_RXD/EMC_D7/T0_MAT2/SGPIO10, T3 P1_4/GPIO0[11]/CTOUT_9/SGPIO11/EMC_BLS0/USB0_IND0/SSP1_MOSI/SD_VOLT1, T4 P1_6/GPIO1[9]/CTIN_5/EMC_WE/SGPIO14/SD_CMD, T5 P1_7/GPIO1[0]/U1_DSR/CTOUT_13/EMC_D0/USB0_PPWR, T7 P1_9/GPIO1[2]/U1_RTS/CTOUT_11/EMC_D2/SD_DAT0, T9 P1_11/GPIO1[4]/U1_CTS/CTOUT_15/EMC_D4/SD_DAT2, T12 P1_15/GPIO0[2]/U2_TXD/SGPIO2/ENET_RXD0/T0_MAT1, T16 P2_0/SGPIO4/U0_TXD/EMC_A13/USB0_PPWR/GPIO5[0]/T3_CAP0/ENET_MDC
part B pins: A7 P7_5/GPIO3[13]/CTOUT_12/LCD_VD8/LCD_VD23/TRACEDATA[1]/ADC0_3, A16 P7_2/GPIO3[10]/CTIN_4/I2S0_TX_SDA/LCD_VD18/LCD_VD6/U2_RXD/SGPIO6, B6 P7_7/GPIO3[15]/CTOUT_8/LCD_PWR/TRACEDATA[3]/ENET_MDC/ADC1_6, B16 P7_0/GPIO3[8]/CTOUT_14/LCD_LE/SGPIO4, C7 P7_6/GPIO3[14]/CTOUT_11/LCD_LP/TRACEDATA[2], C8 P7_4/GPIO3[12]/CTOUT_13/LCD_VD16/LCD_VD4/TRACEDATA[0]/ADC0_4, C13 P7_3/GPIO3[11]/CTIN_3/LCD_VD17/LCD_VD5, C14 P7_1/GPIO3[9]/CTOUT_15/I2S0_TX_WS/LCD_VD19/LCD_VD7/U2_TXD/SGPIO5, E5 P8_0/GPIO4[0]/USB0_PWR_FAULT/MCI2/SGPIO8/T0_MAT0, G13 PA_4/CTOUT_9/EMC_A23/GPIO5[19], G15 P6_12/GPIO2[8]/CTOUT_7/EMC_DQMOUT0, H5 P8_1/GPIO4[1]/USB0_IND1/MCI1/SGPIO9/T0_MAT1, H11 PA_3/GPIO4[10]/QEI_PHA, H12 P6_11/GPIO3[7]/EMC_CKEOUT0/T2_MAT3, H13 P6_8/EMC_A14/SGPIO7/USB0_IND0/GPIO5[16]/T2_MAT1, H15 P6_10/GPIO3[6]/MCABORT/EMC_DQMOUT1, J1 P8_5/GPIO4[5]/USB1_ULPI_D0/LCD_VD6/LCD_VD8/T0_CAP1, J2 P8_4/GPIO4[4]/USB1_ULPI_D1/LCD_VD7/LCD_VD16/T0_CAP0, J3 P8_3/GPIO4[3]/USB1_ULPI_D2/LCD_VD12/LCD_VD19/T0_MAT3, J13 P6_7/EMC_A15/SGPIO6/USB0_IND1/GPIO5[15]/T2_MAT0, J14 PA_1/GPIO4[8]/QEI_IDX/U2_TXD, J15 P6_9/GPIO3[5]/EMC_DYCS0/T2_MAT2, K1 P8_7/GPIO4[7]/USB1_ULPI_STP/LCD_VD4/LCD_PWR/T0_CAP3, K3 P8_6/GPIO4[6]/USB1_ULPI_NXT/LCD_VD5/LCD_LP/T0_CAP2, K4 P8_2/GPIO4[2]/USB0_IND0/MCI0/SGPIO10/T0_MAT2, K15 PA_2/GPIO4[9]/QEI_PHB/U2_RXD, L1 P8_8/USB1_ULPI_CLK/CGU_OUT0/I2S1_TX_MCLK, L11 P9_6/GPIO4[11]/MCOB1/USB1_PWR_FAULT/ENET_COL/SGPIO8/U0_RXD, L12 PA_0/I2S1_RX_MCLK/CGU_OUT1, L13 P6_2/GPIO3[1]/EMC_CKEOUT1/U0_DIR/I2S0_RX_SDA/T2_CAP1, L14 P6_6/GPIO0[5]/EMC_BLS1/SGPIO5/USB0_PWR_FAULT/T2_CAP3, M6 P9_3/GPIO4[15]/MCOA0/USB1_IND1/ENET_RXD2/SGPIO9/U3_TXD, M9 P9_5/MCOA1/USB1_PPWR/GPIO5[18]/ENET_TXD3/SGPIO3/U0_TXD, M12 P6_0/I2S0_RX_MCLK/I2S0_RX_SCK, N3 P5_0/GPIO2[9]/MCOB2/EMC_D12/U1_DSR/T1_CAP0, N6 P9_1/GPIO4[13]/MCOA2/I2S0_TX_WS/ENET_RX_ER/SGPIO1/SSP0_MISO, N8 P9_2/GPIO4[14]/MCOB2/I2S0_TX_SDA/ENET_RXD3/SGPIO2/SSP0_MOSI, N10 P9_4/MCOB0/USB1_IND0/GPIO5[17]/ENET_TXD2/SGPIO4/U3_RXD, P3 P5_1/GPIO2[10]/MCI2/EMC_D13/U1_DTR/T1_CAP1, P9 P5_4/GPIO2[13]/MCOB0/EMC_D8/U1_CTS/T1_MAT0, P10 P5_5/GPIO2[14]/MCOA1/EMC_D9/U1_DCD/T1_MAT1, P15 P6_3/GPIO3[2]/USB0_PPWR/SGPIO4/EMC_CS1/T2_CAP2, P16 P6_5/GPIO3[4]/CTOUT_6/U0_RXD/EMC_RAS, R4 P5_2/GPIO2[11]/MCI1/EMC_D14/U1_RTS/T1_CAP2, R12 P5_7/GPIO2[7]/MCOA2/EMC_D11/U1_RXD/T1_MAT3, R15 P6_1/GPIO3[0]~{/EMC_DYCS1}/U0_UCLK/I2S0_RX_WS/T2_CAP0, R16 P6_4/GPIO3[3]/CTIN_6/U0_TXD/~{EMC_CAS}, T1 P9_0/GPIO4[12]/MCABORT/ENET_CRS/SGPIO0/SSP0_SSEL, T8 P5_3/GPIO2[12]/MCI0/EMC_D15/U1_RI/T1_CAP3, T13 P5_6/GPIO2[15]/MCOB1/EMC_D10/U1_TXD/T1_MAT2
part C pins: A2 PF_11/U0_RXD/GPIO7[25]/SD_VOLT2/ADC1_5, A3 PF_10/U0_TXD/GPIO7[24]/SD_WP/ADC0_5, A6 PB_6/USB1_ULPI_D3/LCD_VD13/GPIO5[26]/CTIN_6/LCD_VD19/ADC0_6, A12 PB_5/USB1_ULPI_D4/LCD_VD14/GPIO5[25]/CTIN_7/LCD_PWR, A13 PB_3/USB1_ULPI_D6/LCD_VD20/GPIO5[23]/CTOUT_8, A14 PB_1/USB1_ULPI_DIR/LCD_VD22/GPIO5[21]/CTOUT_6, B7 PF_7/U3_BAUD/SSP1_MOSI/TRACEDATA[2]/GPIO7[21]/SGPIO6/I2S1_TX_WS/ADC1_7, B11 PB_4/USB1_ULPI_D5/LCD_VD15/GPIO5[24]/CTIN_5, B12 PB_2/USB1_ULPI_D7/LCD_VD21/GPIO5[22]/CTOUT_7, B15 PB_0/CTOUT_10/LCD_VD23/GPIO5[20], C15 PE_14/~{EMC_DYCS3}/GPIO7[14], D4 PC_0/USB1_ULPI_CLK/ENET_RX_CLK/LCD_DCLK/SD_CLK/ADC1_1, D6 PF_9/U0_DIR/CTOUT_1/GPIO7[23]/SGPIO3/ADC1_2, D10 PF_4/SSP1_SCK/GP_CLKIN/TRACECLK/I2S0_TX_MCLK/I2S0_RX_SCK, D11 PF_2/U3_TXD/SSP0_MISO/GPIO7[17]/SGPIO1, D12 PF_0/SSP0_SCK/GP_CLKIN/I2S1_TX_MCLK, D15 PE_12/CTOUT_11/U1_RXD/EMC_D31/GPIO7[12], D16 PE_11/CTOUT_12/U1_TXD/EMC_D30/GPIO7[11], E4 PC_1/USB1_ULPI_D7/U1_RI/ENET_MDC/GPIO6[0]/T3_CAP0/SD_VOLT0, E6 PF_8/U0_UCLK/CTIN_2/TRACEDATA[3]/GPIO7[22]/SGPIO7/ADC0_2, E7 PF_6/U3_DIR/SSP1_MISO/TRACEDATA[1]/GPIO7[20]/SGPIO5/I2S1_TX_SDA/ADC1_3, E9 PF_5/U3_UCLK/SSP1_SSEL/TRACEDATA[0]/GPIO7[19]/SGPIO4/ADC1_4, E10 PF_3/U3_RXD/SSP0_MOSI/GPIO7[18]/SGPIO2, E11 PF_1/SSP0_SSEL/GPIO7[16]/SGPIO0, E13 PE_15/CTOUT_0/I2C1_SCL/EMC_CKEOUT3/GPIO7[15], E14 PE_10/CTIN_3/U1_DTR/EMC_D29/GPIO7[10], E16 PE_9/CTIN_4/U1_DCD/EMC_D28/GPIO7[9], F4 PC_4/USB1_ULPI_D4/ENET_TX_EN/GPIO6[3]/T3_CAP1/SD_DAT0, F5 PC_3/USB1_ULPI_D5/U1_RTS/ENET_TXD3/GPIO6[2]/SD_VOLT1/ADC1_0, F6 PC_2/USB1_ULPI_D6/U1_CTS/ENET_TXD2/GPIO6[1]/SD_RST, F14 PE_8/CTOUT_4/U1_DSR/EMC_D27/GPIO7[8], F15 PE_7/CTOUT_5/U1_CTS/EMC_D26/GPIO7[7], G4 PC_5/USB1_ULPI_D3/ENET_TX_ER/GPIO6[4]/T3_CAP2/SD_DAT1, G5 PC_7/USB1_ULPI_D1/ENET_RXD3/GPIO6[6]/T3_MAT0/SD_DAT3, G14 PE_13/CTOUT_14/I2C1_SDA/EMC_DQMOUT3/GPIO7[13], H6 PC_6/USB1_ULPI_D2/ENET_RXD2/GPIO6[5]/T3_CAP3/SD_DAT2, K2 PC_9/USB1_ULPI_NXT/ENET_RX_ER/GPIO6[8]/T3_MAT2/SD_POW, K12 PE_3/CAN0_TD/ADCTRIG1/EMC_A21/GPIO7[3], K13 PE_4/NMI/EMC_A22/GPIO7[4], L5 PC_11/USB1_ULPI_DIR/U1_DCD/GPIO6[10]/SD_DAT4, L6 PC_12/U1_DTR/GPIO6[11]/SGPIO11/I2S0_TX_SDA/SD_DAT5, M1 PC_13/U1_TXD/GPIO6[12]/SGPIO12/I2S0_TX_WS/SD_DAT6, M5 PC_10/USB1_ULPI_STP/U1_DSR/GPIO6[9]/T3_MAT3/SD_CMD, M14 PE_2/ADCTRIG0/CAN0_RD/EMC_A20/GPIO7[2], M16 PE_6/CTOUT_2/U1_RI/EMC_D25/GPIO7[6], N1 PC_14/U1_RXD/GPIO6[13]/SGPIO13/ENET_TX_ER/SD_DAT7, N2 PD_0/CTOUT_15/EMC_DQMOUT2/GPIO6[14]/SGPIO4, N4 PC_8/USB1_ULPI_D0/ENET_RX_DV/GPIO6[7]/T3_MAT1/SD_CD, N9 PD_11/~{EMC_CS3}/GPIO6[25]/USB1_ULPI_D0/CTOUT_14, N11 PD_12/~{EMC_CS2}/GPIO6[26]/CTOUT_10, N14 PE_1/EMC_A19/GPIO7[1]/CAN1_RD, N16 PE_5/CTOUT_3/U1_RTS/EMC_D24/GPIO7[5], P1 PD_1/EMC_CKEOUT2/GPIO6[15]/SD_POW/SGPIO5, P4 PD_3/CTOUT_6/EMC_D17/GPIO6[17]/SGPIO7, P6 PD_5/CTOUT_9/EMC_D19/GPIO6[19]/SGPIO9, P8 PD_8/CTIN_6/EMC_D22/GPIO6[22]/SGPIO12, P11 PD_10/CTIN_1/EMC_BLS3/GPIO6[24], P14 PE_0/EMC_A18/GPIO7[0]/CAN1_TD, R1 PD_2/CTOUT_7/EMC_D16/GPIO6[16]/SGPIO6, R6 PD_6/CTOUT_10/EMC_D20/GPIO6[20]/SGPIO10, R13 PD_14/~{EMC_DYCS2}/GPIO6[28]/CTOUT_11, R14 PD_16/EMC_A16/GPIO6[30]/SD_VOLT2/CTOUT_12, T2 PD_4/CTOUT_8/EMC_D18/GPIO6[18]/SGPIO8, T6 PD_7/CTIN_5/EMC_D21/GPIO6[21]/SGPIO11, T11 PD_9/CTOUT_13/EMC_D23/GPIO6[23]/SGPIO13, T14 PD_13/CTIN_0/~{EMC_BLS2}/GPIO6[27]/CTOUT_13, T15 PD_15/EMC_A17/GPIO6[29]/SD_WP/CTOUT_8
part D pins: A4 ADC0_2/ADC1_2, A5 ADC0_6/ADC1_6, A8 RTCX1, A9 WAKEUP0, A10 WAKEUP1, A11 RTC_ALARM, B2 VSSA, B3 ADC0_5/ADC1_5, B4 VDDA, B5 ADC0_3/ADC1_3, B8 RTCX2, B9 NC, B10 VBAT, C3 ADC0_1/ADC1_1, C4 VSSIO_1, C5 ADC0_7/ADC1_7, C6 ADC0_4/ADC1_4, C9 WAKEUP2, D1 XTAL1, D7 VDDIO_1, D8 WAKEUP3, D9 ~{RESET}, D13 VSSIO_2, D14 CLK2/EMC_CLK3/CLKOUT/SD_CLK/EMC_CLK23/I2S0_TX_MCLK/I2S1_RX_SCK, E1 XTAL2, E3 ADC0_0/ADC1_0/DAC, E8 VPP, E12 VDDIO_2, F1 USB0_VBUS, F2 USB0_DP, F3 USB0_VDDA3V3_DRIVER, F7 VDDIO_3, F8 VDDIO_4, F9 VDDREG_2, F10 VDDREG_1, F12 USB1_DP, G1 USB0_VSSA_REF, G2 USB0_DM, G3 USB0_VDDA3V3, G6 VSSIO_3, G7 VSSIO_4, G8 VSSIO_5, G9 VSS_1, G10 VDDIO_5, G12 USB1_DM, H1 USB0_RREF, H2 USB0_ID, H3 USB0_VSSA_TERM, H7 VSS_2, H8 VSSIO_6, H9 VSSIO_7, H10 VDDIO_6, J4 TDI, J5 TCK/SWDCLK, J6 VDDIO_7, J7 VDDIO_8, J8 VSSIO_8, J9 VSSIO_9, J10 VSS_3, J11 VSS_4, K5 TDO/SWO, K6 TMS/SWDIO, K7 VDDIO_9, K8 VSS_5, K9 VSSIO_10, K10 VSSIO_11, L4 DBGEN, L7 VDDREG_4, L8 VDDREG_3, L9 VDDIO_10, L10 VDDIO_11, L15 I2C0_SCL, L16 I2C0_SDA, M4 ~{TRST}, M13 VSSIO_12, N5 CLK0/EMC_CLK0/CLKOUT/SD_CLK/EMC_CLK01/SSP1_SCK/ENET_TX_CLK(ENET_REF_CLK), N7 VDDIO_12, N13 VDDIO_13, P7 VSSIO_13, P12 CLK3/EMC_CLK2/CLKOUT/CGU_OUT1/I2S1_RX_SCK, P13 VSSIO_14, T10 CLK1/EMC_CLK1/CLKOUT/CGU_OUT0/I2S1_TX_MCLK
part A text: 1/4
part B text: 2/4
part C text: 3/4
part D text: 4/4; NXP; Cortex-M3; LBGA256

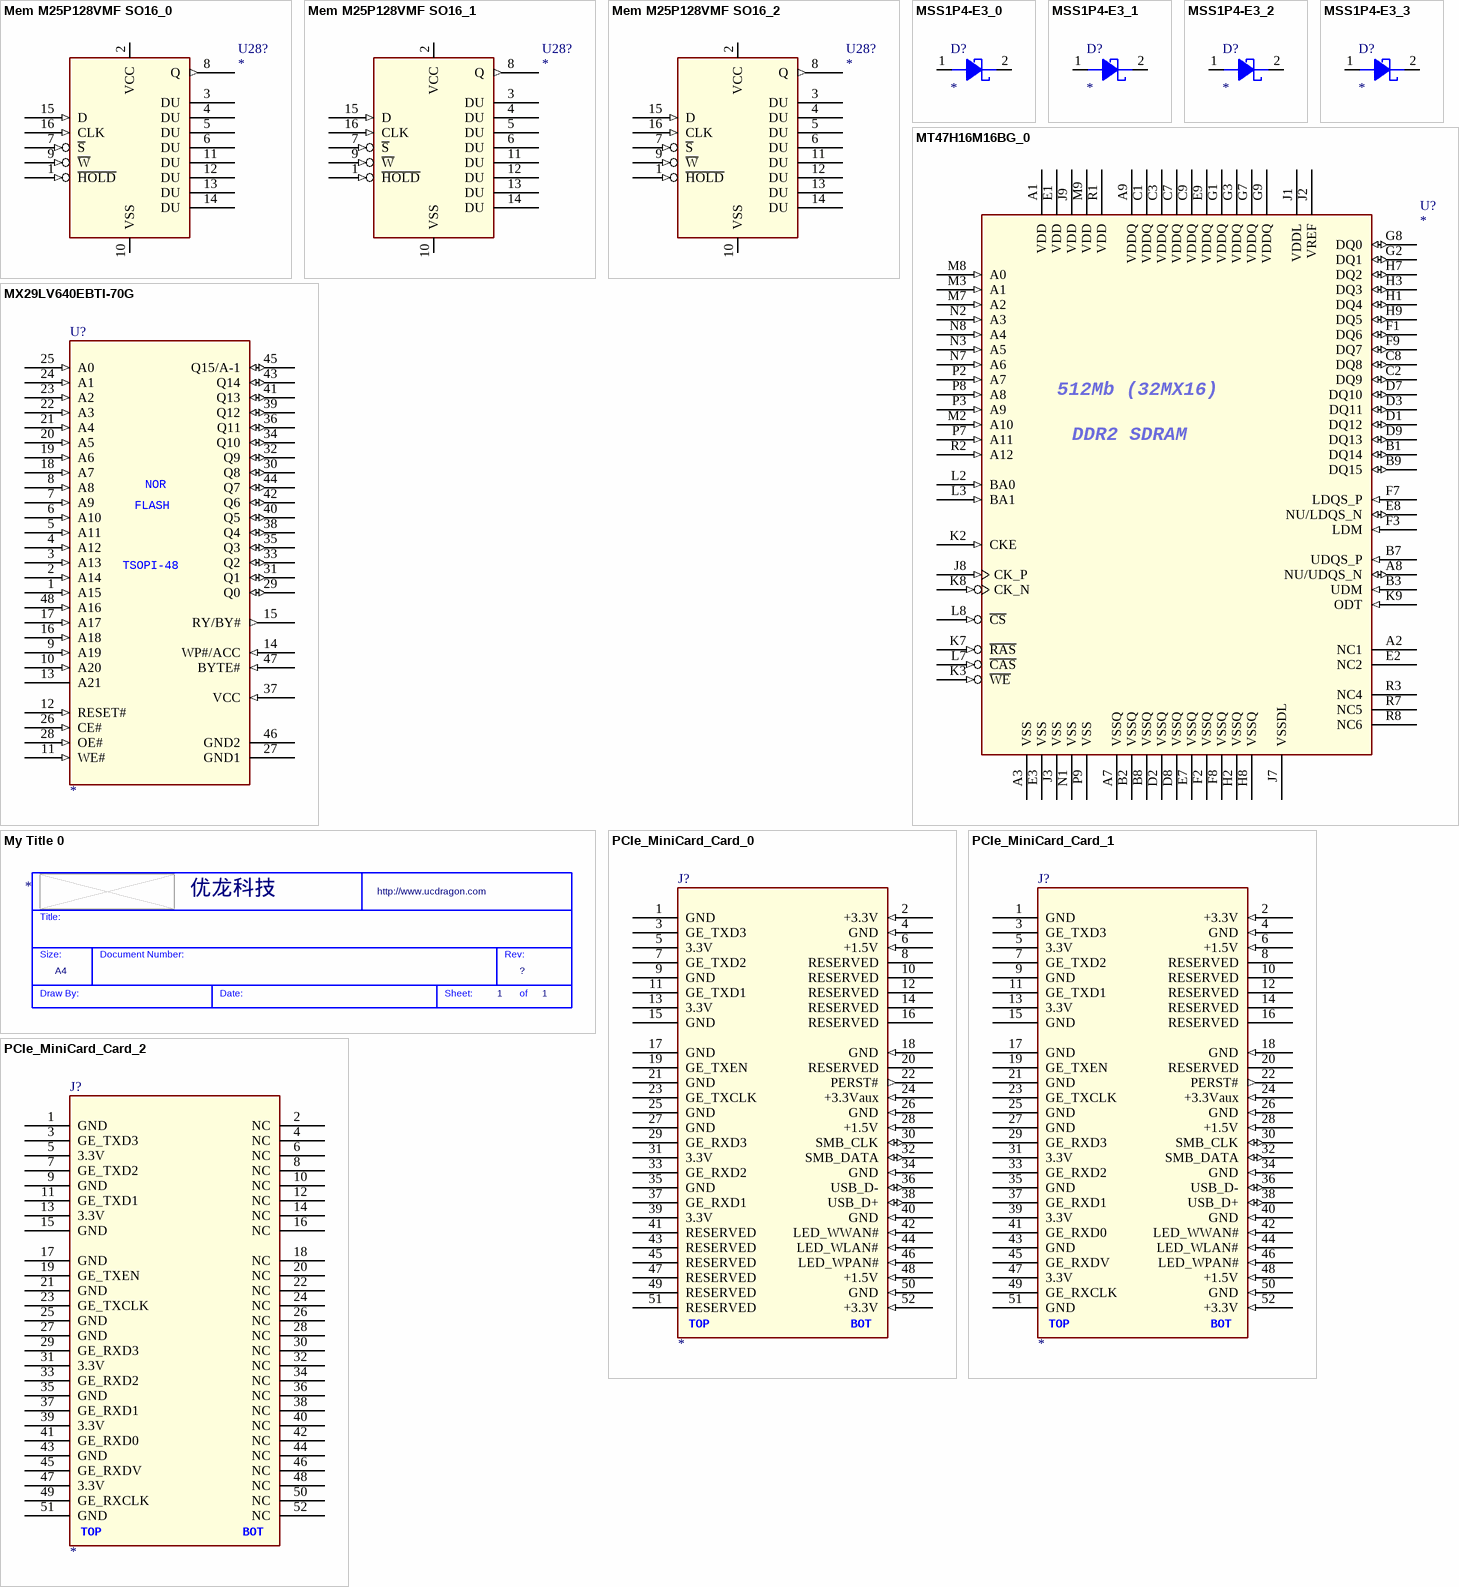
[diagram p5: symbols Mem M25P128VMF SO16_0 to PCIe_MiniCard_Card_2]

## Mem M25P128VMF SO16_0
designator U28?
ATHEROS KEY: 135-00033-000; Altium-Right: 80; Altium-Bottom: 120
footprint SO16
pins: 1 ~{HOLD} (in), 2 VCC (power), 3 DU, 4 DU, 5 DU, 6 DU, 7 ~{S} (in), 8 Q (out), 9 ~{W} (in), 10 VSS (power), 11 DU, 12 DU, 13 DU, 14 DU, 15 D (in), 16 CLK (in)

## Mem M25P128VMF SO16_1
designator U28?
ATHEROS KEY: 135-00033-000; Altium-Right: 80; Altium-Bottom: 120
footprint SO16
pins: 1 ~{HOLD} (in), 2 VCC (power), 3 DU, 4 DU, 5 DU, 6 DU, 7 ~{S} (in), 8 Q (out), 9 ~{W} (in), 10 VSS (power), 11 DU, 12 DU, 13 DU, 14 DU, 15 D (in), 16 CLK (in)

## Mem M25P128VMF SO16_2
designator U28?
ATHEROS KEY: 135-00033-000; Altium-Right: 80; Altium-Bottom: 120
footprint SO16
pins: 1 ~{HOLD} (in), 2 VCC (power), 3 DU, 4 DU, 5 DU, 6 DU, 7 ~{S} (in), 8 Q (out), 9 ~{W} (in), 10 VSS (power), 11 DU, 12 DU, 13 DU, 14 DU, 15 D (in), 16 CLK (in)

## MSS1P4-E3_0
designator D?
Altium-Right: 30; Altium-Bottom: 20
footprint DIODE/0603
pins: 1 ANODE, 2 CATHODE

## MSS1P4-E3_1
designator D?
Altium-Right: 30; Altium-Bottom: 20
footprint DIODE/0603
pins: 1 ANODE, 2 CATHODE

## MSS1P4-E3_2
designator D?
Altium-Right: 30; Altium-Bottom: 20
footprint 0603
pins: 1 ANODE, 2 CATHODE

## MSS1P4-E3_3
designator D?
Altium-Right: 30; Altium-Bottom: 20
footprint 0603
pins: 1 ANODE, 2 CATHODE

## MT47H16M16BG_0
designator U?
NC: A2,E2,L1,R3,R7,R8; Altium-Right: 260; Altium-Bottom: 360
pins: A1 VDD (power), A2 NC1, A3 VSS (power), A7 VSSQ (power), A8 NU/UDQS_N (io), A9 VDDQ (power), B1 DQ14 (io), B2 VSSQ (power), B3 UDM (in), B7 UDQS_P (in), B8 VSSQ (power), B9 DQ15 (io), C1 VDDQ (power), C2 DQ9 (io), C3 VDDQ (power), C7 VDDQ (power), C8 DQ8 (io), C9 VDDQ (power), D1 DQ12 (io), D2 VSSQ (power), D3 DQ11 (io), D7 DQ10 (io), D8 VSSQ (power), D9 DQ13 (io), E1 VDD (power), E2 NC2, E3 VSS (power), E7 VSSQ (power), E8 NU/LDQS_N (io), E9 VDDQ (power), F1 DQ6 (io), F2 VSSQ (power), F3 LDM (in), F7 LDQS_P (in), F8 VSSQ (power), F9 DQ7 (io), G1 VDDQ (power), G2 DQ1 (io), G3 VDDQ (power), G7 VDDQ (power), G8 DQ0 (io), G9 VDDQ (power), H1 DQ4 (io), H2 VSSQ (power), H3 DQ3 (io), H7 DQ2 (io), H8 VSSQ (power), H9 DQ5 (io), J1 VDDL (power), J2 VREF (power), J3 VSS (power), J7 VSSDL (power), J8 CK_P (in), J9 VDD (power), K2 CKE (in), K3 ~{WE} (in), K7 ~{RAS} (in), K8 CK_N (in), K9 ODT (in), L2 BA0 (in), L3 BA1 (in), L7 ~{CAS} (in), L8 ~{CS} (in), M2 A10 (in), M3 A1 (in), M7 A2 (in), M8 A0 (in), M9 VDD (power), N1 VSS (power), N2 A3 (in), N3 A5 (in), N7 A6 (in), N8 A4 (in), P2 A7 (in), P3 A9 (in), P7 A11 (in), P8 A8 (in), P9 VSS (power), R1 VDD (power), R2 A12 (in), R3 NC4, R7 NC5, R8 NC6
text: 512Mb (32MX16); DDR2 SDRAM

## MX29LV640EBTI-70G
designator U?
Altium-Right: 120; Altium-Bottom: 300
footprint TSOPI-48
pins: 1 A15 (in), 2 A14 (in), 3 A13 (in), 4 A12 (in), 5 A11 (in), 6 A10 (in), 7 A9 (in), 8 A8 (in), 9 A19 (in), 10 A20 (in), 11 WE# (in), 12 RESET# (in), 13 A21, 14 WP#/ACC (in), 15 RY/BY# (out), 16 A18 (in), 17 A17 (in), 18 A7 (in), 19 A6 (in), 20 A5 (in), 21 A4 (in), 22 A3 (in), 23 A2 (in), 24 A1 (in), 25 A0 (in), 26 CE# (in), 27 GND1, 28 OE# (in), 29 Q0 (io), 30 Q8 (io), 31 Q1 (io), 32 Q9 (io), 33 Q2 (io), 34 Q10 (io), 35 Q3 (io), 36 Q11 (io), 37 VCC (in), 38 Q4 (io), 39 Q12 (io), 40 Q5 (io), 41 Q13 (io), 42 Q6 (io), 43 Q14 (io), 44 Q7 (io), 45 Q15/A-1 (io), 46 GND2, 47 BYTE# (in), 48 A16 (in)
text: NOR; FLASH; TSOPI-48

## My Title 0
designator *  Company: 优龙科技  Page Size: A4  Page Number: 1  (graphical)
Altium-Right: 360; Altium-Bottom: 90; WebSite: http://www.ucdragon.com; Page Create Date: May 29, 2006; RevCode: ?; Page Count: 1
text: Title:; Size:; Document Number:; Rev:; Draw By:; Date:; Sheet:; of

## PCIe_MiniCard_Card_0
designator J?
Altium-Right: 140; Altium-Bottom: 300
footprint PCIe-MiniCard
pins: 1 GND, 2 +3.3V (in), 3 GE_TXD3, 4 GND (in), 5 3.3V, 6 +1.5V (in), 7 GE_TXD2, 8 RESERVED, 9 GND, 10 RESERVED, 11 GE_TXD1, 12 RESERVED, 13 3.3V, 14 RESERVED, 15 GND, 16 RESERVED, 17 GND, 18 GND (in), 19 GE_TXEN, 20 RESERVED, 21 GND, 22 PERST# (out), 23 GE_TXCLK, 24 +3.3Vaux (in), 25 GND, 26 GND (in), 27 GND, 28 +1.5V (in), 29 GE_RXD3, 30 SMB_CLK (io), 31 3.3V, 32 SMB_DATA (io), 33 GE_RXD2, 34 GND (in), 35 GND, 36 USB_D- (io), 37 GE_RXD1, 38 USB_D+ (io), 39 3.3V, 40 GND (in), 41 RESERVED, 42 LED_WWAN# (in), 43 RESERVED, 44 LED_WLAN# (in), 45 RESERVED, 46 LED_WPAN# (in), 47 RESERVED, 48 +1.5V (in), 49 RESERVED, 50 GND (in), 51 RESERVED, 52 +3.3V (in)
text: TOP; BOT

## PCIe_MiniCard_Card_1
designator J?
Altium-Right: 140; Altium-Bottom: 300
footprint PCIe-MiniCard
pins: 1 GND, 2 +3.3V (in), 3 GE_TXD3, 4 GND (in), 5 3.3V, 6 +1.5V (in), 7 GE_TXD2, 8 RESERVED, 9 GND, 10 RESERVED, 11 GE_TXD1, 12 RESERVED, 13 3.3V, 14 RESERVED, 15 GND, 16 RESERVED, 17 GND, 18 GND (in), 19 GE_TXEN, 20 RESERVED, 21 GND, 22 PERST# (out), 23 GE_TXCLK, 24 +3.3Vaux (in), 25 GND, 26 GND (in), 27 GND, 28 +1.5V (in), 29 GE_RXD3, 30 SMB_CLK (io), 31 3.3V, 32 SMB_DATA (io), 33 GE_RXD2, 34 GND (in), 35 GND, 36 USB_D- (io), 37 GE_RXD1, 38 USB_D+ (io), 39 3.3V, 40 GND (in), 41 GE_RXD0, 42 LED_WWAN# (in), 43 GND, 44 LED_WLAN# (in), 45 GE_RXDV, 46 LED_WPAN# (in), 47 3.3V, 48 +1.5V (in), 49 GE_RXCLK, 50 GND (in), 51 GND, 52 +3.3V (in)
text: TOP; BOT

## PCIe_MiniCard_Card_2
designator J?
Altium-Right: 140; Altium-Bottom: 300
footprint PCIe-MiniCard
pins: 1 GND, 2 NC, 3 GE_TXD3, 4 NC, 5 3.3V, 6 NC, 7 GE_TXD2, 8 NC, 9 GND, 10 NC, 11 GE_TXD1, 12 NC, 13 3.3V, 14 NC, 15 GND, 16 NC, 17 GND, 18 NC, 19 GE_TXEN, 20 NC, 21 GND, 22 NC, 23 GE_TXCLK, 24 NC, 25 GND, 26 NC, 27 GND, 28 NC, 29 GE_RXD3, 30 NC, 31 3.3V, 32 NC, 33 GE_RXD2, 34 NC, 35 GND, 36 NC, 37 GE_RXD1, 38 NC, 39 3.3V, 40 NC, 41 GE_RXD0, 42 NC, 43 GND, 44 NC, 45 GE_RXDV, 46 NC, 47 3.3V, 48 NC, 49 GE_RXCLK, 50 NC, 51 GND, 52 NC
text: TOP; BOT

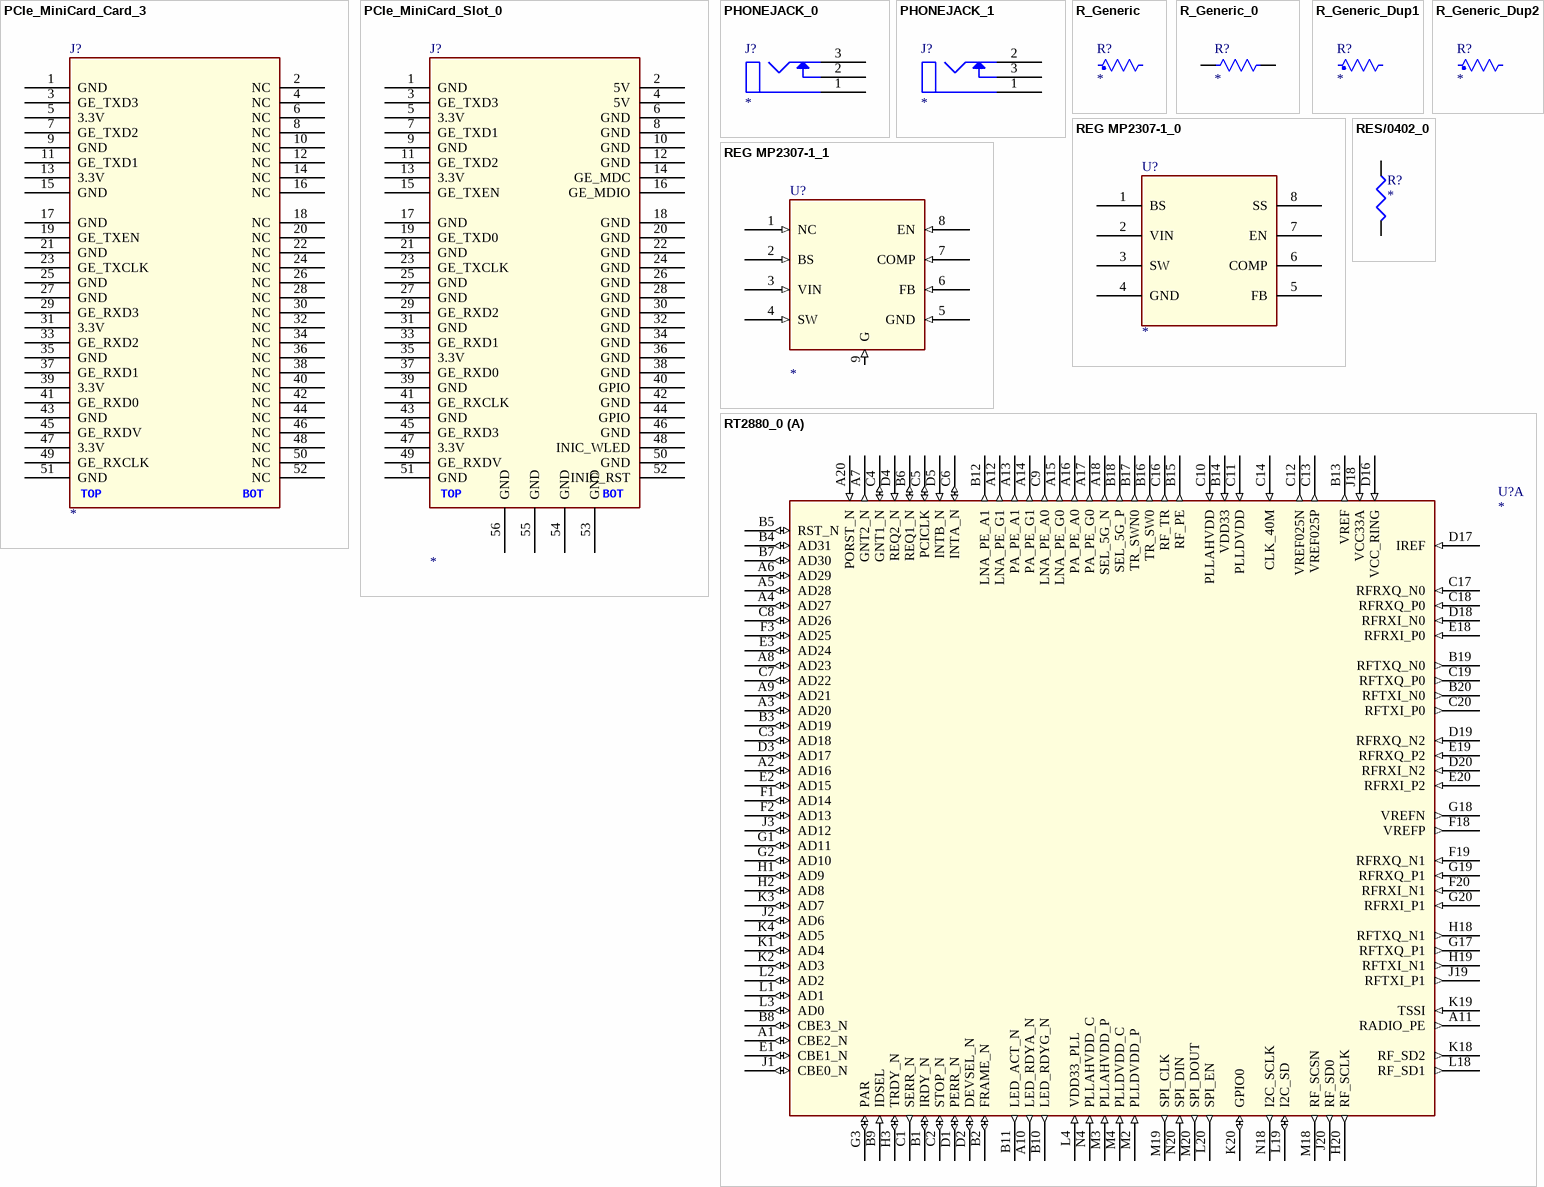
[diagram p6: symbols PCIe_MiniCard_Card_3 to RT2880_0]

## PCIe_MiniCard_Card_3
designator J?
Altium-Right: 140; Altium-Bottom: 300
footprint PCIe-MiniCard Slot
pins: 1 GND, 2 NC, 3 GE_TXD3, 4 NC, 5 3.3V, 6 NC, 7 GE_TXD2, 8 NC, 9 GND, 10 NC, 11 GE_TXD1, 12 NC, 13 3.3V, 14 NC, 15 GND, 16 NC, 17 GND, 18 NC, 19 GE_TXEN, 20 NC, 21 GND, 22 NC, 23 GE_TXCLK, 24 NC, 25 GND, 26 NC, 27 GND, 28 NC, 29 GE_RXD3, 30 NC, 31 3.3V, 32 NC, 33 GE_RXD2, 34 NC, 35 GND, 36 NC, 37 GE_RXD1, 38 NC, 39 3.3V, 40 NC, 41 GE_RXD0, 42 NC, 43 GND, 44 NC, 45 GE_RXDV, 46 NC, 47 3.3V, 48 NC, 49 GE_RXCLK, 50 NC, 51 GND, 52 NC
text: TOP; BOT

## PCIe_MiniCard_Slot_0
designator J?
Altium-Right: 140; Altium-Bottom: 300
footprint PCIe-MiniCard-Slot
pins: 1 GND, 2 5V, 3 GE_TXD3, 4 5V, 5 3.3V, 6 GND, 7 GE_TXD1, 8 GND, 9 GND, 10 GND, 11 GE_TXD2, 12 GND, 13 3.3V, 14 GE_MDC, 15 GE_TXEN, 16 GE_MDIO, 17 GND, 18 GND, 19 GE_TXD0, 20 GND, 21 GND, 22 GND, 23 GE_TXCLK, 24 GND, 25 GND, 26 GND, 27 GND, 28 GND, 29 GE_RXD2, 30 GND, 31 GND, 32 GND, 33 GE_RXD1, 34 GND, 35 3.3V, 36 GND, 37 GE_RXD0, 38 GND, 39 GND, 40 GPIO, 41 GE_RXCLK, 42 GND, 43 GND, 44 GPIO, 45 GE_RXD3, 46 GND, 47 3.3V, 48 INIC_WLED, 49 GE_RXDV, 50 GND, 51 GND, 52 INIC_RST, 53 GND, 54 GND, 55 GND, 56 GND
text: TOP; BOT

## PHONEJACK_0
designator J?
Altium-Right: 50; Altium-Bottom: 40
pins: 1, 2, 3

## PHONEJACK_1
designator J?
Altium-Right: 50; Altium-Bottom: 40
pins: 1, 2, 3

## R_Generic
designator R?
Altium-Right: 30; Altium-Bottom: 20
pins: 1, 2

## R_Generic_0
designator R?
Altium-Right: 30; Altium-Bottom: 20
pins: 1, 2

## R_Generic_Dup1
designator R?
Altium-Right: 30; Altium-Bottom: 20
pins: 1, 2

## R_Generic_Dup2
designator R?
Altium-Right: 30; Altium-Bottom: 20
pins: 1, 2

## REG MP2307-1_0
designator U?
Altium-Right: 90; Altium-Bottom: 100
footprint SOIC-8P-EP
pins: 1 BS, 2 VIN, 3 SW, 4 GND, 5 FB, 6 COMP, 7 EN, 8 SS

## REG MP2307-1_1
designator U?
Altium-Right: 90; Altium-Bottom: 100
footprint SOIC-8P-EP
pins: 1 NC (in), 2 BS (in), 3 VIN (in), 4 SW (in), 5 GND (in), 6 FB (in), 7 COMP (in), 8 EN (in), 9 G (in)

## RES/0402_0
designator R?
Altium-Right: 20; Altium-Bottom: 30
footprint 0402
pins: 1, 2

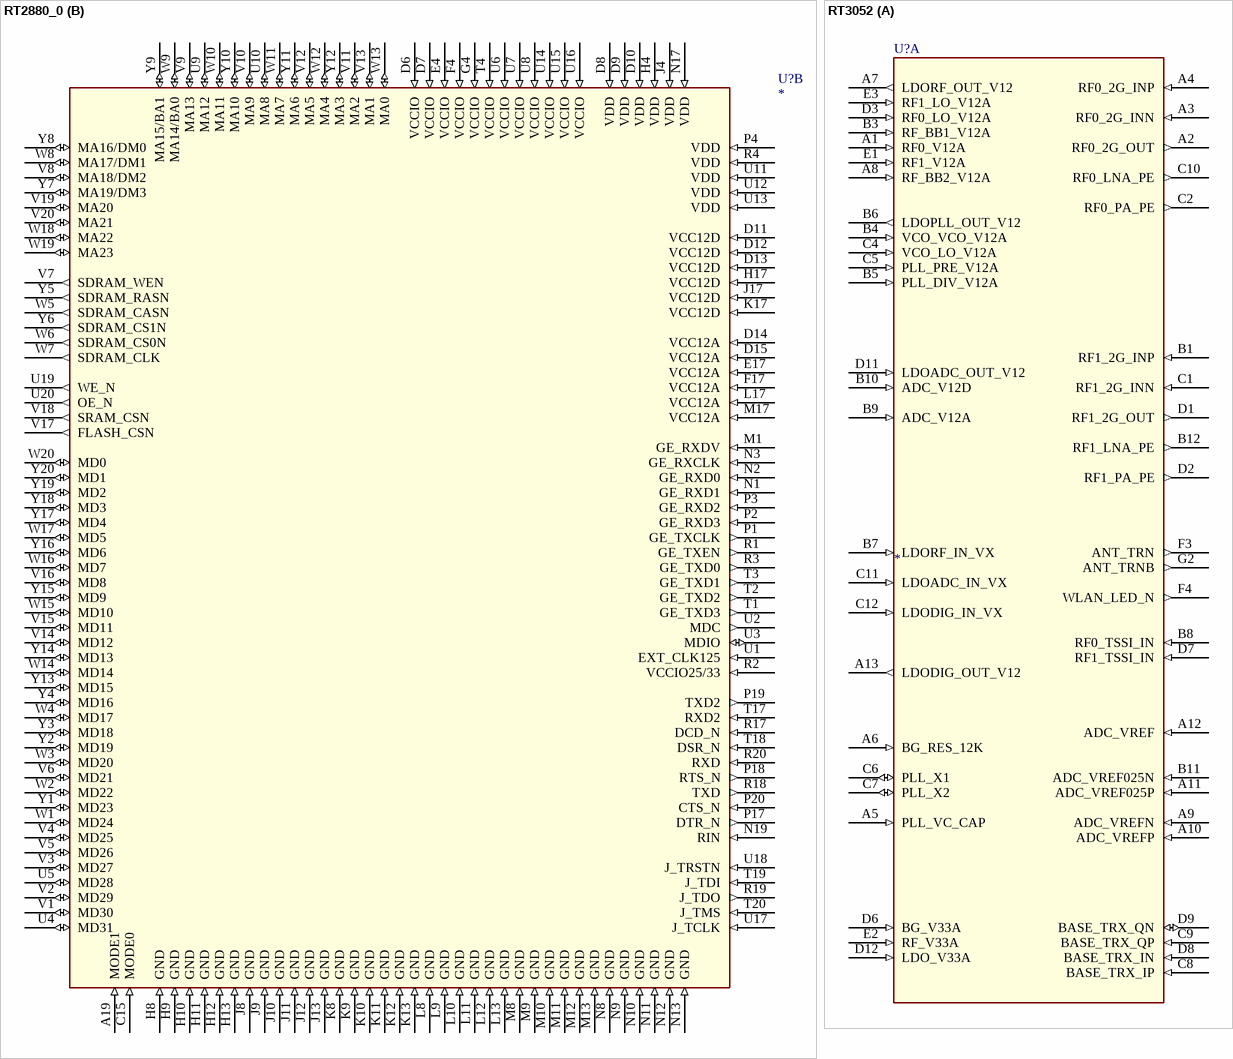
[diagram p7: symbols RT2880_0 to RT3052]

## RT2880_0
designator U?
Altium-Right: 430; Altium-Bottom: 410; Altium-Right1: 440; Altium-Bottom1: 600
footprint BGA-292P-17X17
part A pins: A1 CBE2_N (io), A2 AD16 (io), A3 AD20 (io), A4 AD27 (io), A5 AD28 (io), A6 AD29 (io), A7 GNT2_N (out), A8 AD23 (io), A9 AD21 (io), A10 LED_RDYA_N (out), A11 RADIO_PE (out), A12 LNA_PE_G1 (out), A13 PA_PE_A1 (out), A14 PA_PE_G1 (out), A15 LNA_PE_G0 (out), A16 PA_PE_A0 (out), A17 PA_PE_G0 (out), A18 SEL_5G_N (out), A20 PORST_N (in), B1 IRDY_N (io), B2 FRAME_N (io), B3 AD19 (io), B4 AD31 (io), B5 RST_N (io), B6 REQ1_N (io), B7 AD30 (io), B8 CBE3_N (io), B9 IDSEL (in), B10 LED_RDYG_N (out), B11 LED_ACT_N (out), B12 LNA_PE_A1 (out), B13 VREF (out), B14 VDD33 (in), B15 RF_PE (out), B16 TR_SW0 (out), B17 TR_SWN0 (out), B18 SEL_5G_P (out), B19 RFTXQ_N0 (out), B20 RFTXI_N0 (out), C1 SERR_N (out), C2 STOP_N (io), C3 AD18 (io), C4 GNT1_N (io), C5 PCICLK (io), C6 INTA_N (io), C7 AD22 (io), C8 AD26 (io), C9 LNA_PE_A0 (out), C10 PLLAHVDD (in), C11 PLLDVDD (in), C12 VREF025N (out), C13 VREF025P (out), C14 CLK_40M (in), C16 RF_TR (out), C17 RFRXQ_N0 (in), C18 RFRXQ_P0 (in), C19 RFTXQ_P0 (out), C20 RFTXI_P0 (out), D1 PERR_N (io), D2 DEVSEL_N (io), D3 AD17 (io), D4 REQ2_N (in), D5 INTB_N (in), D16 VCC_RING (in), D17 IREF (in), D18 RFRXI_N0 (in), D19 RFRXQ_N2 (in), D20 RFRXI_N2 (in), E1 CBE1_N (io), E2 AD15 (io), E3 AD24 (io), E18 RFRXI_P0 (in), E19 RFRXQ_P2 (in), E20 RFRXI_P2 (in), F1 AD14 (io), F2 AD13 (io), F3 AD25 (io), F18 VREFP (out), F19 RFRXQ_N1 (in), F20 RFRXI_N1 (in), G1 AD11 (io), G2 AD10 (io), G3 PAR (io), G17 RFTXQ_P1 (out), G18 VREFN (out), G19 RFRXQ_P1 (in), G20 RFRXI_P1 (in), H1 AD9 (io), H2 AD8 (io), H3 TRDY_N (io), H18 RFTXQ_N1 (out), H19 RFTXI_N1 (out), H20 RF_SCLK (out), J1 CBE0_N (io), J2 AD6 (io), J3 AD12 (io), J18 VCC33A (in), J19 RFTXI_P1 (out), J20 RF_SD0 (out), K1 AD4 (io), K2 AD3 (io), K3 AD7 (io), K4 AD5 (io), K18 RF_SD2 (out), K19 TSSI (in), K20 GPIO0 (io), L1 AD1 (io), L2 AD2 (io), L3 AD0 (io), L4 VDD33_PLL (in), L18 RF_SD1 (out), L19 I2C_SD (io), L20 SPI_EN (out), M2 PLLDVDD_P (in), M3 PLLAHVDD_P (in), M4 PLLDVDD_C (in), M18 RF_SCSN (out), M19 SPI_CLK (out), M20 SPI_DOUT (out), N4 PLLAHVDD_C (in), N18 I2C_SCLK (out), N20 SPI_DIN (in)
part B pins: A19 MODE1 (in), C15 MODE0 (in), D6 VCCIO (in), D7 VCCIO (in), D8 VDD (in), D9 VDD (in), D10 VDD (in), D11 VCC12D (in), D12 VCC12D (in), D13 VCC12D (in), D14 VCC12A (in), D15 VCC12A (in), E4 VCCIO (in), E17 VCC12A (in), F4 VCCIO (in), F17 VCC12A (in), G4 VCCIO (in), H4 VDD (in), H8 GND (in), H9 GND (in), H10 GND (in), H11 GND (in), H12 GND (in), H13 GND (in), H17 VCC12D (in), J4 VDD (in), J8 GND (in), J9 GND (in), J10 GND (in), J11 GND (in), J12 GND (in), J13 GND (in), J17 VCC12D (in), K8 GND (in), K9 GND (in), K10 GND (in), K11 GND (in), K12 GND (in), K13 GND (in), K17 VCC12D (in), L8 GND (in), L9 GND (in), L10 GND (in), L11 GND (in), L12 GND (in), L13 GND (in), L17 VCC12A (in), M1 GE_RXDV (in), M8 GND (in), M9 GND (in), M10 GND (in), M11 GND (in), M12 GND (in), M13 GND (in), M17 VCC12A (in), N1 GE_RXD1 (in), N2 GE_RXD0 (in), N3 GE_RXCLK (in), N8 GND (in), N9 GND (in), N10 GND (in), N11 GND (in), N12 GND (in), N13 GND (in), N17 VDD (in), N19 RIN (in), P1 GE_TXCLK (out), P2 GE_RXD3 (in), P3 GE_RXD2 (in), P4 VDD (in), P17 DTR_N (out), P18 RTS_N (out), P19 TXD2 (out), P20 CTS_N (in), R1 GE_TXEN (out), R2 VCCIO25/33 (in), R3 GE_TXD0 (out), R4 VDD (in), R17 DCD_N (in), R18 TXD (out), R19 J_TDO (out), R20 RXD (in), T1 GE_TXD3 (out), T2 GE_TXD2 (out), T3 GE_TXD1 (out), T4 VCCIO (in), T17 RXD2 (in), T18 DSR_N (in), T19 J_TDI (in), T20 J_TMS (in), U1 EXT_CLK125 (in), U2 MDC (out), U3 MDIO (io), U4 MD31 (io), U5 MD28 (io), U6 VCCIO (in), U7 VCCIO (in), U8 VCCIO (in), U9 MA12 (io), U10 MA8 (io), U11 VDD (in), U12 VDD (in), U13 VDD (in), U14 VCCIO (in), U15 VCCIO (in), U16 VCCIO (in), U17 J_TCLK (in), U18 J_TRSTN (in), U19 WE_N (out), U20 OE_N (out), V1 MD30 (io), V2 MD29 (io), V3 MD27 (io), V4 MD25 (io), V5 MD26 (io), V6 MD21 (io), V7 SDRAM_WEN (out), V8 MA18/DM2 (io), V9 MA13 (io), V10 MA9 (io), V11 MA2 (io), V12 MA5 (io), V13 MA1 (io), V14 MD12 (io), V15 MD11 (io), V16 MD8 (io), V17 FLASH_CSN (out), V18 SRAM_CSN (out), V19 MA20 (io), V20 MA21 (io), W1 MD24 (io), W2 MD22 (io), W3 MD20 (io), W4 MD17 (io), W5 SDRAM_CASN (out), W6 SDRAM_CS0N (out), W7 SDRAM_CLK (out), W8 MA17/DM1 (io), W9 MA14/BA0 (io), W10 MA11 (io), W11 MA7 (io), W12 MA4 (io), W13 MA0 (io), W14 MD14 (io), W15 MD10 (io), W16 MD7 (io), W17 MD5 (io), W18 MA22 (io), W19 MA23 (io), W20 MD0 (io), Y1 MD23 (io), Y2 MD19 (io), Y3 MD18 (io), Y4 MD16 (io), Y5 SDRAM_RASN (out), Y6 SDRAM_CS1N (out), Y7 MA19/DM3 (io), Y8 MA16/DM0 (io), Y9 MA15/BA1 (io), Y10 MA10 (io), Y11 MA6 (io), Y12 MA3 (io), Y13 MD15 (io), Y14 MD13 (io), Y15 MD9 (io), Y16 MD6 (io), Y17 MD4 (io), Y18 MD3 (io), Y19 MD2 (io), Y20 MD1 (io)

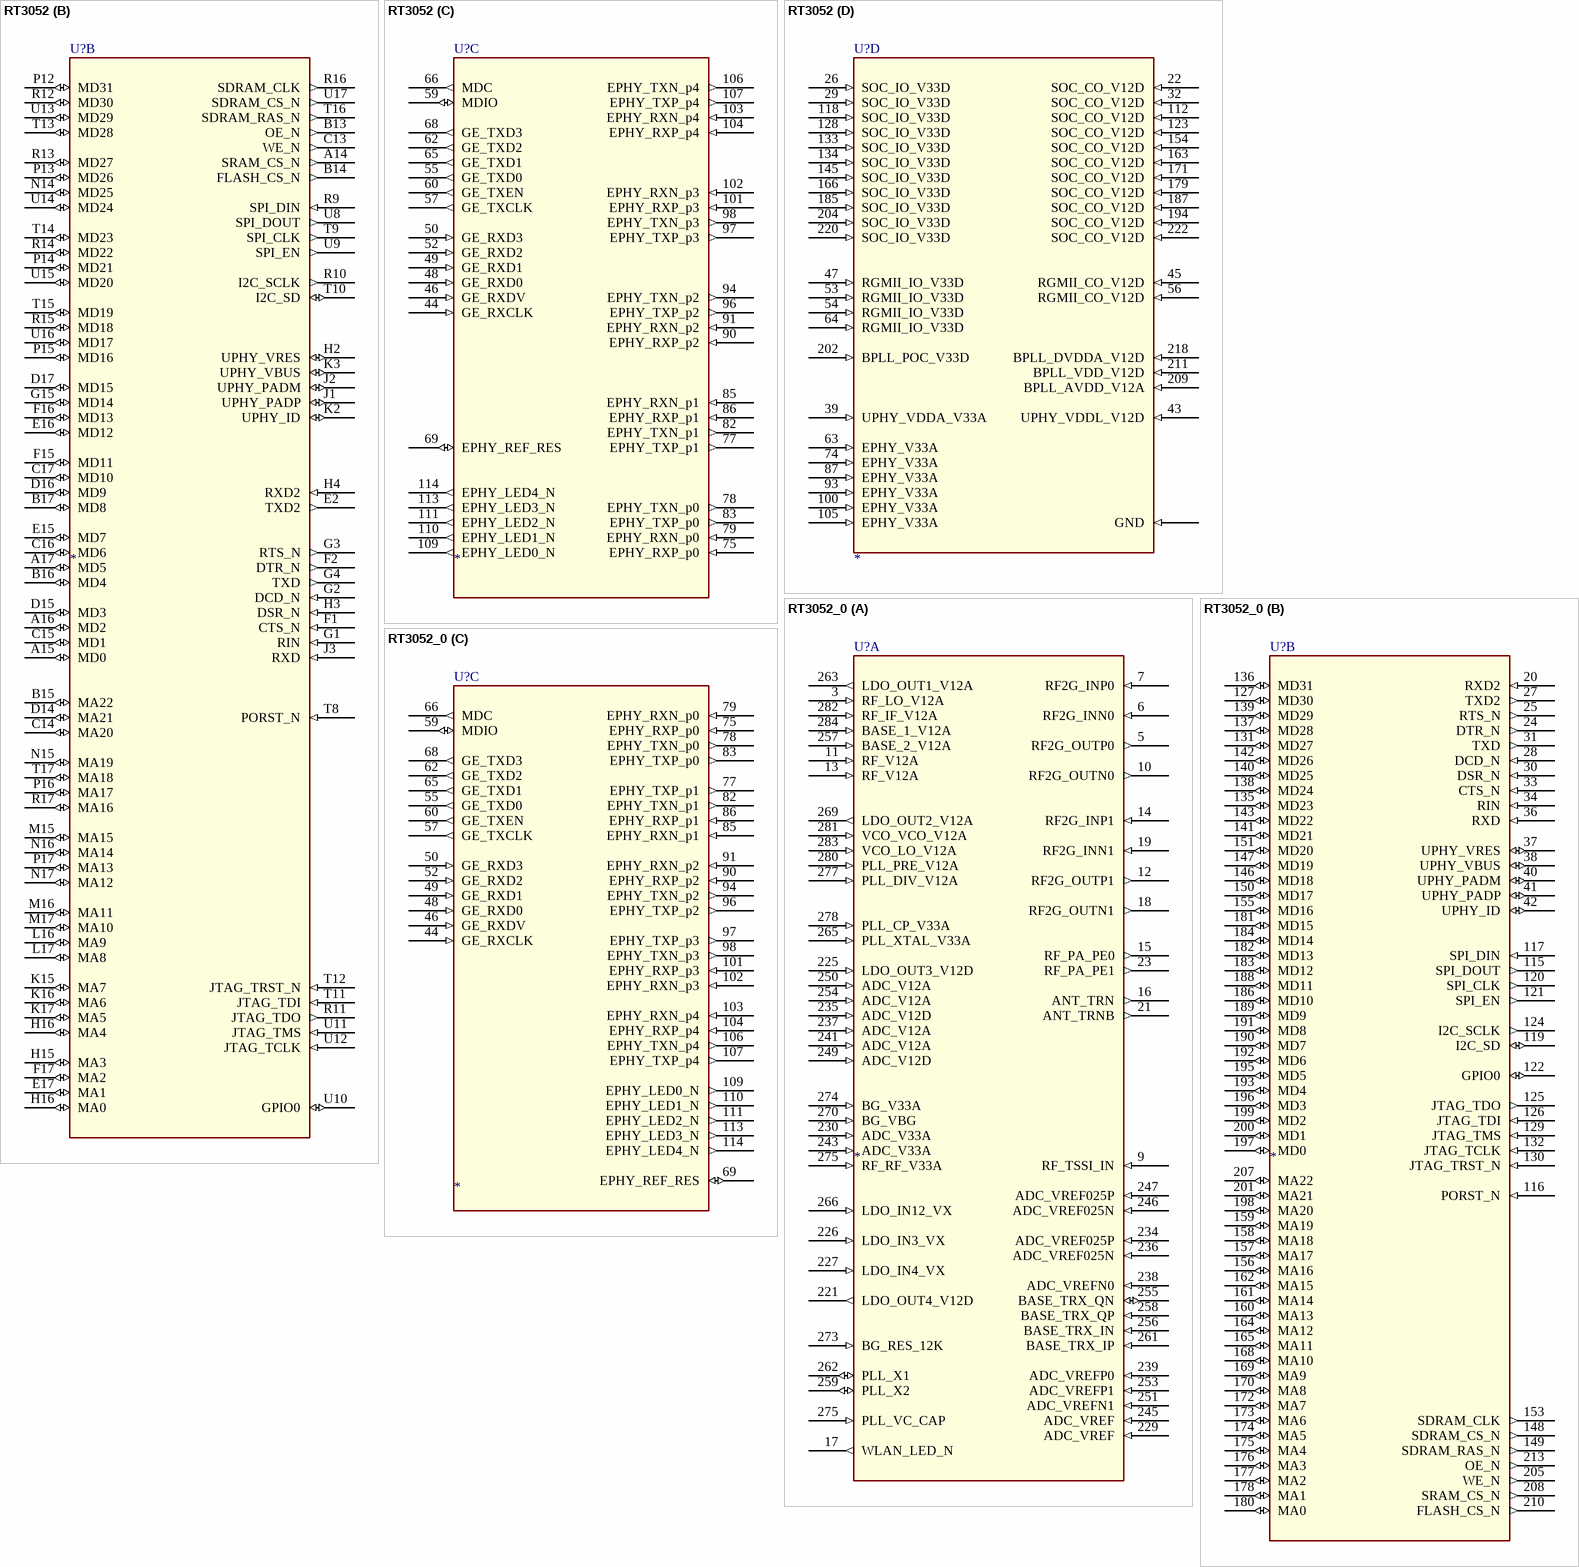
[diagram p8: symbols RT3052 to RT3052_0]

## RT3052
designator U?
Altium-Right: 180; Altium-Bottom: 630; Altium-Right1: 160; Altium-Bottom1: 720; Altium-Right2: 170; Altium-Bottom2: 360; Altium-Right3: 200; Altium-Bottom3: 330
footprint TFBGA289
part A pins: A1 RF0_V12A (in), A2 RF0_2G_OUT (out), A3 RF0_2G_INN (in), A4 RF0_2G_INP (in), A5 PLL_VC_CAP (in), A6 BG_RES_12K (in), A7 LDORF_OUT_V12 (out), A8 RF_BB2_V12A (in), A9 ADC_VREFN (in), A10 ADC_VREFP (in), A11 ADC_VREF025P (in), A12 ADC_VREF (in), A13 LDODIG_OUT_V12 (out), B1 RF1_2G_INP (in), B3 RF_BB1_V12A (in), B4 VCO_VCO_V12A (in), B5 PLL_DIV_V12A (in), B6 LDOPLL_OUT_V12 (out), B7 LDORF_IN_VX (in), B8 RF0_TSSI_IN (in), B9 ADC_V12A (in), B10 ADC_V12D (in), B11 ADC_VREF025N (in), B12 RF1_LNA_PE (out), C1 RF1_2G_INN (in), C2 RF0_PA_PE (out), C4 VCO_LO_V12A (in), C5 PLL_PRE_V12A (in), C6 PLL_X1 (io), C7 PLL_X2 (io), C8 BASE_TRX_IP (in), C9 BASE_TRX_QP (in), C10 RF0_LNA_PE (out), C11 LDOADC_IN_VX (in), C12 LDODIG_IN_VX (in), D1 RF1_2G_OUT (out), D2 RF1_PA_PE (out), D3 RF0_LO_V12A (in), D6 BG_V33A (in), D7 RF1_TSSI_IN (in), D8 BASE_TRX_IN (in), D9 BASE_TRX_QN (io), D11 LDOADC_OUT_V12 (in), D12 LDO_V33A (in), E1 RF1_V12A (in), E2 RF_V33A (in), E3 RF1_LO_V12A (in), F3 ANT_TRN (out), F4 WLAN_LED_N (out), G2 ANT_TRNB (out)
part B pins: A14 SRAM_CS_N (out), A15 MD0 (io), A16 MD2 (io), A17 MD5 (io), B13 OE_N (out), B14 FLASH_CS_N (out), B15 MA22 (io), B16 MD4 (io), B17 MD8 (io), C13 WE_N (out), C14 MA20 (io), C15 MD1 (io), C16 MD6 (io), C17 MD10 (io), D14 MA21 (io), D15 MD3 (io), D16 MD9 (io), D17 MD15 (io), E2 TXD2 (out), E15 MD7 (io), E16 MD12 (io), E17 MA1 (io), F1 CTS_N (in), F2 DTR_N (out), F15 MD11 (io), F16 MD13 (io), F17 MA2 (io), G1 RIN (in), G2 DCD_N (in), G3 RTS_N (out), G4 TXD (out), G15 MD14 (io), H2 UPHY_VRES (io), H3 DSR_N (in), H4 RXD2 (in), H15 MA3 (io), H16 MA4 (io), H16 MA0 (io), J1 UPHY_PADP (io), J2 UPHY_PADM (io), J3 RXD (in), K2 UPHY_ID (io), K3 UPHY_VBUS (io), K15 MA7 (io), K16 MA6 (io), K17 MA5 (io), L16 MA9 (io), L17 MA8 (io), M15 MA15 (io), M16 MA11 (io), M17 MA10 (io), N14 MD25 (io), N15 MA19 (io), N16 MA14 (io), N17 MA12 (io), P12 MD31 (io), P13 MD26 (io), P14 MD21 (io), P15 MD16 (io), P16 MA17 (io), P17 MA13 (io), R9 SPI_DIN (in), R10 I2C_SCLK (out), R11 JTAG_TDO (out), R12 MD30 (io), R13 MD27 (io), R14 MD22 (io), R15 MD18 (io), R16 SDRAM_CLK (out), R17 MA16 (io), T8 PORST_N (in), T9 SPI_CLK (out), T10 I2C_SD (io), T11 JTAG_TDI (in), T12 JTAG_TRST_N (in), T13 MD28 (io), T14 MD23 (io), T15 MD19 (io), T16 SDRAM_RAS_N (out), T17 MA18 (io), U8 SPI_DOUT (out), U9 SPI_EN (out), U10 GPIO0 (io), U11 JTAG_TMS (in), U12 JTAG_TCLK (in), U13 MD29 (io), U14 MD24 (io), U15 MD20 (io), U16 MD17 (io), U17 SDRAM_CS_N (out)
part C pins: 44 GE_RXCLK (in), 46 GE_RXDV (in), 48 GE_RXD0 (in), 49 GE_RXD1 (in), 50 GE_RXD3 (in), 52 GE_RXD2 (in), 55 GE_TXD0 (out), 57 GE_TXCLK (out), 59 MDIO (io), 60 GE_TXEN (out), 62 GE_TXD2 (out), 65 GE_TXD1 (out), 66 MDC (out), 68 GE_TXD3 (out), 69 EPHY_REF_RES (io), 75 EPHY_RXP_p0 (in), 77 EPHY_TXP_p1 (out), 78 EPHY_TXN_p0 (out), 79 EPHY_RXN_p0 (in), 82 EPHY_TXN_p1 (out), 83 EPHY_TXP_p0 (out), 85 EPHY_RXN_p1 (in), 86 EPHY_RXP_p1 (in), 90 EPHY_RXP_p2 (in), 91 EPHY_RXN_p2 (in), 94 EPHY_TXN_p2 (out), 96 EPHY_TXP_p2 (out), 97 EPHY_TXP_p3 (out), 98 EPHY_TXN_p3 (out), 101 EPHY_RXP_p3 (in), 102 EPHY_RXN_p3 (in), 103 EPHY_RXN_p4 (in), 104 EPHY_RXP_p4 (in), 106 EPHY_TXN_p4 (out), 107 EPHY_TXP_p4 (out), 109 EPHY_LED0_N (out), 110 EPHY_LED1_N (out), 111 EPHY_LED2_N (out), 113 EPHY_LED3_N (out), 114 EPHY_LED4_N (out)
part D pins: 22 SOC_CO_V12D (in), 26 SOC_IO_V33D (in), 29 SOC_IO_V33D (in), 32 SOC_CO_V12D (in), 39 UPHY_VDDA_V33A (in), 43 UPHY_VDDL_V12D (in), 45 RGMII_CO_V12D (in), 47 RGMII_IO_V33D (in), 53 RGMII_IO_V33D (in), 54 RGMII_IO_V33D (in), 56 RGMII_CO_V12D (in), 63 EPHY_V33A (in), 64 RGMII_IO_V33D (in), 74 EPHY_V33A (in), 87 EPHY_V33A (in), 93 EPHY_V33A (in), 100 EPHY_V33A (in), 105 EPHY_V33A (in), 112 SOC_CO_V12D (in), 118 SOC_IO_V33D (in), 123 SOC_CO_V12D (in), 128 SOC_IO_V33D (in), 133 SOC_IO_V33D (in), 134 SOC_IO_V33D (in), 145 SOC_IO_V33D (in), 154 SOC_CO_V12D (in), 163 SOC_CO_V12D (in), 166 SOC_IO_V33D (in), 171 SOC_CO_V12D (in), 179 SOC_CO_V12D (in), 185 SOC_IO_V33D (in), 187 SOC_CO_V12D (in), 194 SOC_CO_V12D (in), 202 BPLL_POC_V33D (in), 204 SOC_IO_V33D (in), 209 BPLL_AVDD_V12A (in), 211 BPLL_VDD_V12D (in), 218 BPLL_DVDDA_V12D (in), 220 SOC_IO_V33D (in), 222 SOC_CO_V12D (in), GND (in)

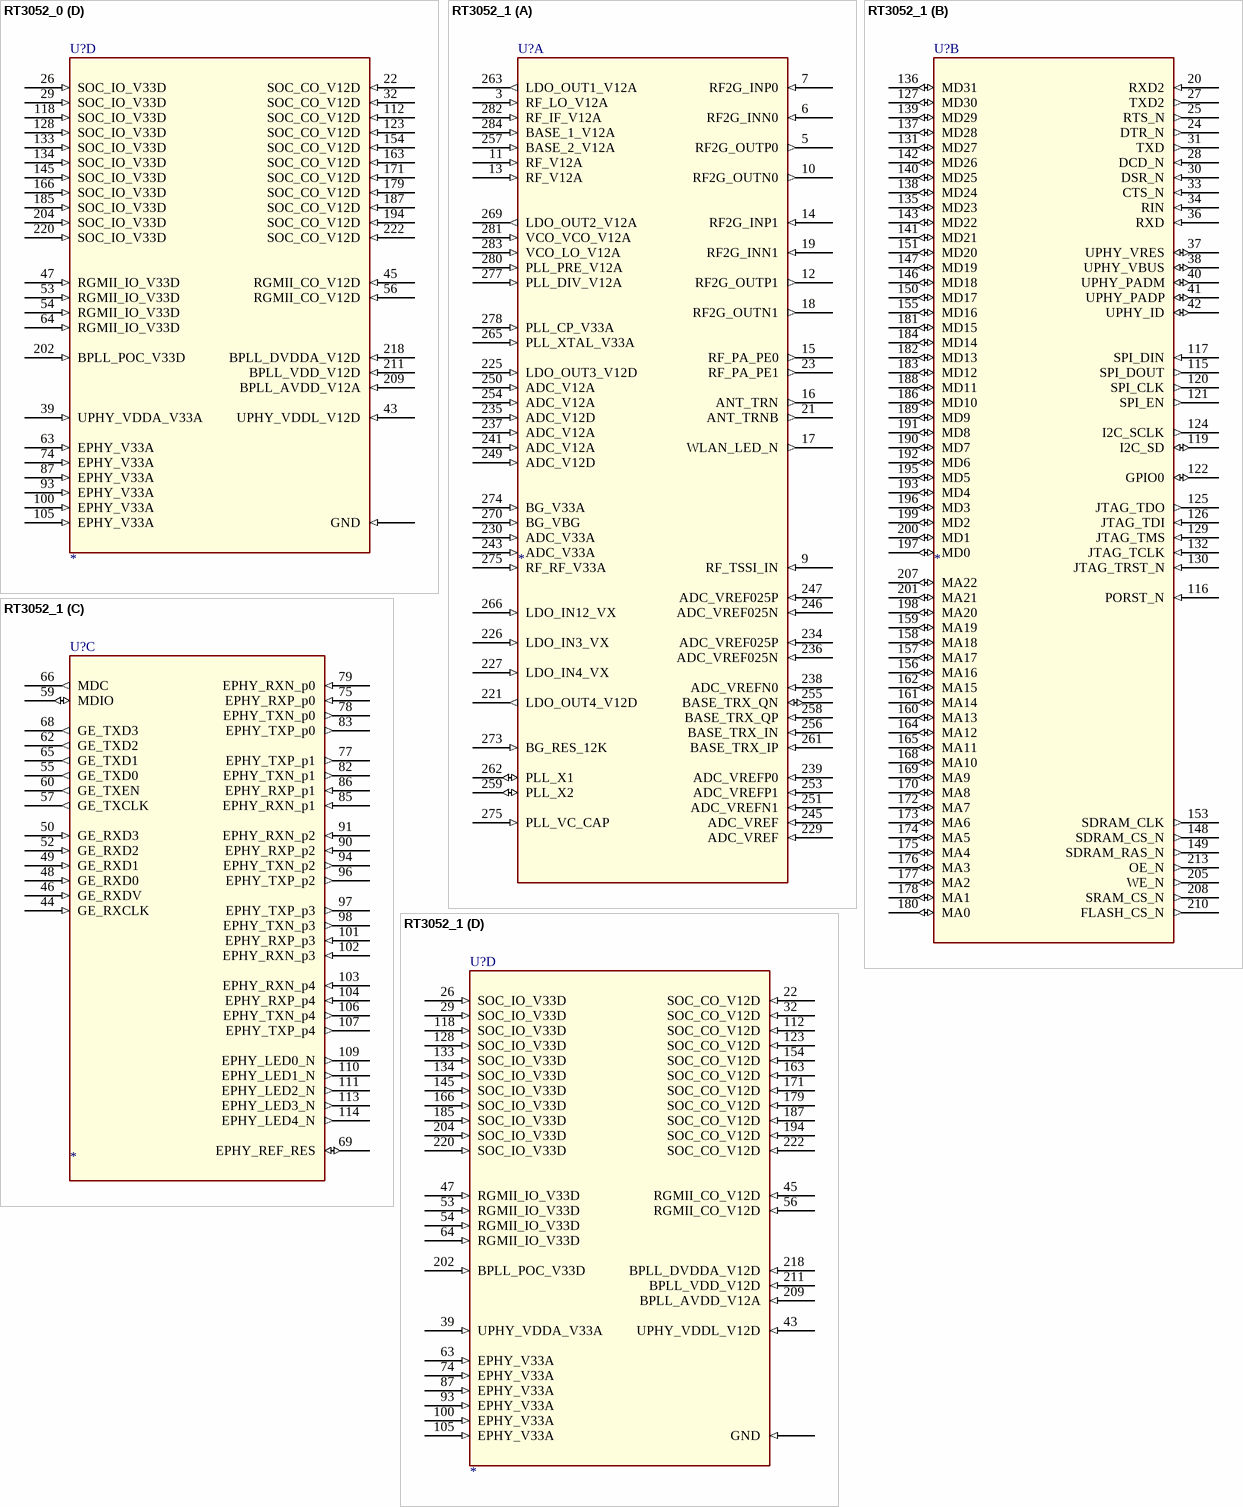
[diagram p9: symbols RT3052_0 to RT3052_1]

## RT3052_0
designator U?
Altium-Right: 180; Altium-Bottom: 550; Altium-Right1: 160; Altium-Bottom1: 590; Altium-Right2: 170; Altium-Bottom2: 350; Altium-Right3: 200; Altium-Bottom3: 330
footprint QFN285
part A pins: 3 RF_LO_V12A (in), 5 RF2G_OUTP0 (out), 6 RF2G_INN0 (in), 7 RF2G_INP0 (in), 9 RF_TSSI_IN (in), 10 RF2G_OUTN0 (out), 11 RF_V12A (in), 12 RF2G_OUTP1 (out), 13 RF_V12A (in), 14 RF2G_INP1 (in), 15 RF_PA_PE0 (out), 16 ANT_TRN (out), 17 WLAN_LED_N (out), 18 RF2G_OUTN1 (out), 19 RF2G_INN1 (in), 21 ANT_TRNB (out), 23 RF_PA_PE1 (out), 221 LDO_OUT4_V12D (out), 225 LDO_OUT3_V12D (in), 226 LDO_IN3_VX (in), 227 LDO_IN4_VX (in), 229 ADC_VREF (in), 230 ADC_V33A (in), 234 ADC_VREF025P (in), 235 ADC_V12D (in), 236 ADC_VREF025N (in), 237 ADC_V12A (in), 238 ADC_VREFN0 (in), 239 ADC_VREFP0 (in), 241 ADC_V12A (in), 243 ADC_V33A (in), 245 ADC_VREF (in), 246 ADC_VREF025N (in), 247 ADC_VREF025P (in), 249 ADC_V12D (in), 250 ADC_V12A (in), 251 ADC_VREFN1 (in), 253 ADC_VREFP1 (in), 254 ADC_V12A (in), 255 BASE_TRX_QN (io), 256 BASE_TRX_IN (in), 257 BASE_2_V12A (in), 258 BASE_TRX_QP (in), 259 PLL_X2 (io), 261 BASE_TRX_IP (in), 262 PLL_X1 (io), 263 LDO_OUT1_V12A (out), 265 PLL_XTAL_V33A (in), 266 LDO_IN12_VX (in), 269 LDO_OUT2_V12A (out), 270 BG_VBG (in), 273 BG_RES_12K (in), 274 BG_V33A (in), 275 PLL_VC_CAP (in), 275 RF_RF_V33A (in), 277 PLL_DIV_V12A (in), 278 PLL_CP_V33A (in), 280 PLL_PRE_V12A (in), 281 VCO_VCO_V12A (in), 282 RF_IF_V12A (in), 283 VCO_LO_V12A (in), 284 BASE_1_V12A (in)
part B pins: 20 RXD2 (in), 24 DTR_N (out), 25 RTS_N (out), 27 TXD2 (out), 28 DCD_N (in), 30 DSR_N (in), 31 TXD (out), 33 CTS_N (in), 34 RIN (in), 36 RXD (in), 37 UPHY_VRES (io), 38 UPHY_VBUS (io), 40 UPHY_PADM (io), 41 UPHY_PADP (io), 42 UPHY_ID (io), 115 SPI_DOUT (out), 116 PORST_N (in), 117 SPI_DIN (in), 119 I2C_SD (io), 120 SPI_CLK (out), 121 SPI_EN (out), 122 GPIO0 (io), 124 I2C_SCLK (out), 125 JTAG_TDO (out), 126 JTAG_TDI (in), 127 MD30 (io), 129 JTAG_TMS (in), 130 JTAG_TRST_N (in), 131 MD27 (io), 132 JTAG_TCLK (in), 135 MD23 (io), 136 MD31 (io), 137 MD28 (io), 138 MD24 (io), 139 MD29 (io), 140 MD25 (io), 141 MD21 (io), 142 MD26 (io), 143 MD22 (io), 146 MD18 (io), 147 MD19 (io), 148 SDRAM_CS_N (out), 149 SDRAM_RAS_N (out), 150 MD17 (io), 151 MD20 (io), 153 SDRAM_CLK (out), 155 MD16 (io), 156 MA16 (io), 157 MA17 (io), 158 MA18 (io), 159 MA19 (io), 160 MA13 (io), 161 MA14 (io), 162 MA15 (io), 164 MA12 (io), 165 MA11 (io), 168 MA10 (io), 169 MA9 (io), 170 MA8 (io), 172 MA7 (io), 173 MA6 (io), 174 MA5 (io), 175 MA4 (io), 176 MA3 (io), 177 MA2 (io), 178 MA1 (io), 180 MA0 (io), 181 MD15 (io), 182 MD13 (io), 183 MD12 (io), 184 MD14 (io), 186 MD10 (io), 188 MD11 (io), 189 MD9 (io), 190 MD7 (io), 191 MD8 (io), 192 MD6 (io), 193 MD4 (io), 195 MD5 (io), 196 MD3 (io), 197 MD0 (io), 198 MA20 (io), 199 MD2 (io), 200 MD1 (io), 201 MA21 (io), 205 WE_N (out), 207 MA22 (io), 208 SRAM_CS_N (out), 210 FLASH_CS_N (out), 213 OE_N (out)
part C pins: 44 GE_RXCLK (in), 46 GE_RXDV (in), 48 GE_RXD0 (in), 49 GE_RXD1 (in), 50 GE_RXD3 (in), 52 GE_RXD2 (in), 55 GE_TXD0 (out), 57 GE_TXCLK (out), 59 MDIO (io), 60 GE_TXEN (out), 62 GE_TXD2 (out), 65 GE_TXD1 (out), 66 MDC (out), 68 GE_TXD3 (out), 69 EPHY_REF_RES (io), 75 EPHY_RXP_p0 (in), 77 EPHY_TXP_p1 (out), 78 EPHY_TXN_p0 (out), 79 EPHY_RXN_p0 (in), 82 EPHY_TXN_p1 (out), 83 EPHY_TXP_p0 (out), 85 EPHY_RXN_p1 (in), 86 EPHY_RXP_p1 (in), 90 EPHY_RXP_p2 (in), 91 EPHY_RXN_p2 (in), 94 EPHY_TXN_p2 (out), 96 EPHY_TXP_p2 (out), 97 EPHY_TXP_p3 (out), 98 EPHY_TXN_p3 (out), 101 EPHY_RXP_p3 (in), 102 EPHY_RXN_p3 (in), 103 EPHY_RXN_p4 (in), 104 EPHY_RXP_p4 (in), 106 EPHY_TXN_p4 (out), 107 EPHY_TXP_p4 (out), 109 EPHY_LED0_N (out), 110 EPHY_LED1_N (out), 111 EPHY_LED2_N (out), 113 EPHY_LED3_N (out), 114 EPHY_LED4_N (out)
part D pins: 22 SOC_CO_V12D (in), 26 SOC_IO_V33D (in), 29 SOC_IO_V33D (in), 32 SOC_CO_V12D (in), 39 UPHY_VDDA_V33A (in), 43 UPHY_VDDL_V12D (in), 45 RGMII_CO_V12D (in), 47 RGMII_IO_V33D (in), 53 RGMII_IO_V33D (in), 54 RGMII_IO_V33D (in), 56 RGMII_CO_V12D (in), 63 EPHY_V33A (in), 64 RGMII_IO_V33D (in), 74 EPHY_V33A (in), 87 EPHY_V33A (in), 93 EPHY_V33A (in), 100 EPHY_V33A (in), 105 EPHY_V33A (in), 112 SOC_CO_V12D (in), 118 SOC_IO_V33D (in), 123 SOC_CO_V12D (in), 128 SOC_IO_V33D (in), 133 SOC_IO_V33D (in), 134 SOC_IO_V33D (in), 145 SOC_IO_V33D (in), 154 SOC_CO_V12D (in), 163 SOC_CO_V12D (in), 166 SOC_IO_V33D (in), 171 SOC_CO_V12D (in), 179 SOC_CO_V12D (in), 185 SOC_IO_V33D (in), 187 SOC_CO_V12D (in), 194 SOC_CO_V12D (in), 202 BPLL_POC_V33D (in), 204 SOC_IO_V33D (in), 209 BPLL_AVDD_V12A (in), 211 BPLL_VDD_V12D (in), 218 BPLL_DVDDA_V12D (in), 220 SOC_IO_V33D (in), 222 SOC_CO_V12D (in), GND (in)